# Altium schematic symbol library SCHLib_Hidde.SchLib: 194 symbols (part 1 of 2)
Pins are listed as number, name and electrical type; pins without a type are passive.

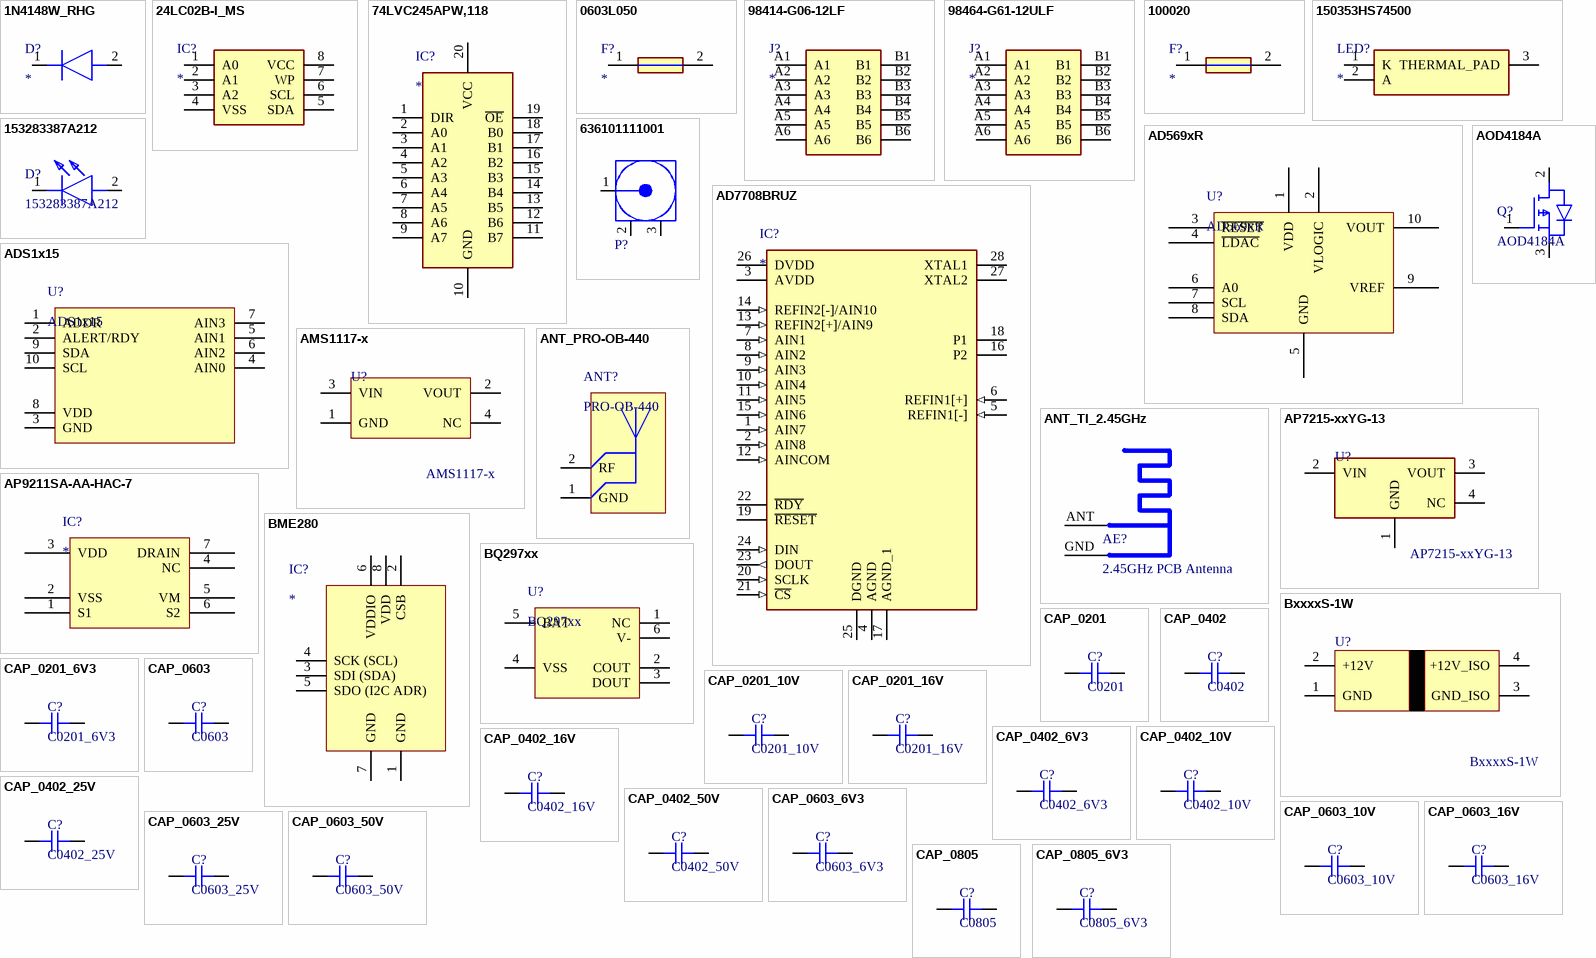
[diagram p0: symbols 1N4148W_RHG to CAP_0805_6V3]

## 1N4148W_RHG
designator D?
Diode; Manufacturer_Name: Taiwan Semiconductor; Manufacturer_Part_Number: 1N4148W RHG; Datasheet Link: https://mouser.componentsearchengine.com/Datasheets/1/1N4148W RHG.pdf; Height: 1.15mm; Mouser Part Number: 821-1N4148WRHG; Mouser Price/Stock: https://www.mouser.co.uk/ProductDetail/Taiwan-Semiconductor/1N4148W-RHG?qs=KwaGCOX4wIag2YPLXylAvA%3D%3D; Arrow Part Number: 1N4148W RHG; Arrow Price/Stock: https://www.arrow.com/en/products/1n4148wrhg/taiwan-semiconductor?region=nac
footprint 1N4148WRHG
pins: 1 K, 2 A

## 24LC02B-I_MS
designator IC?
Integrated Circuit; Manufacturer_Name: Microchip; Manufacturer_Part_Number: 24LC02B-I/MS; Datasheet Link: https://datasheet.datasheetarchive.com/originals/distributors/Datasheets-33/DSA-643049.pdf; Height: 1.1mm; Mouser Part Number: 579-24LC02B-I/MS; Mouser Price/Stock: https://www.mouser.co.uk/ProductDetail/Microchip-Technology/24LC02B-I-MS?qs=qUiwOUCta0fuw30lCQk4NQ%3D%3D; Arrow Part Number: 24LC02B-I/MS; Arrow Price/Stock: https://www.arrow.com/en/products/24lc02b-ims/microchip-technology?region=europe
footprint SOP65P490X110-8N
pins: 1 A0, 2 A1, 3 A2, 4 VSS, 5 SDA, 6 SCL, 7 WP, 8 VCC

## 74LVC245APW,118
designator IC?
Integrated Circuit; Manufacturer_Name: Nexperia; Manufacturer_Part_Number: 74LVC245APW,118; Datasheet Link: https://assets.nexperia.com/documents/data-sheet/74LVC_LVCH245A.pdf; Height: 1.1mm; Mouser Part Number: 771-74LVC245APW-T; Mouser Price/Stock: https://www.mouser.co.uk/ProductDetail/Nexperia/74LVC245APW118?qs=me8TqzrmIYXyG0GfZ8c8kg%3D%3D; Arrow Part Number: 74LVC245APW,118; Arrow Price/Stock: https://www.arrow.com/en/products/74lvc245apw118/nexperia?region=europe
footprint TSSOP-20
pins: 1 DIR, 2 A0, 3 A1, 4 A2, 5 A3, 6 A4, 7 A5, 8 A6, 9 A7, 10 GND, 11 B7, 12 B6, 13 B5, 14 B4, 15 B3, 16 B2, 17 B1, 18 B0, 19 ~{OE}, 20 VCC

## 0603L050
designator F?
Fuse; Manufacturer_Name: LITTELFUSE; Manufacturer_Part_Number: 0603L050; Datasheet Link: https://m.littelfuse.com/~/media/electronics/datasheets/resettable_ptcs/littelfuse_ptc_0603l_datasheet.pdf.pdf; Height: 1.55mm
footprint FUSC1608X155N
pins: 1, 2

## 98414-G06-12LF
designator J?
Connector; Manufacturer_Name: Amphenol; Manufacturer_Part_Number: 98414-G06-12LF; Datasheet Link: http://uk.rs-online.com/web/p/products/1708814; Height: 6.2mm; Mouser Part Number: 649-98414-G06-12LF; Mouser Price/Stock: https://www.mouser.co.uk/ProductDetail/Amphenol-FCI/98414-G06-12LF?qs=V0y2QjpmBGQuUOFb%252Bb1eGw%3D%3D; Arrow Part Number: 98414-G06-12LF; Arrow Price/Stock: https://www.arrow.com/en/products/98414-g06-12lf/amphenol-fci
footprint 98414G0612LF
pins: A1, A2, A3, A4, A5, A6, B1, B2, B3, B4, B5, B6

## 98464-G61-12ULF
designator J?
Connector; Manufacturer_Name: Amphenol; Manufacturer_Part_Number: 98464-G61-12ULF; Datasheet Link: https://cdn.amphenol-icc.com/media/wysiwyg/files/drawing/98464.pdf; Height: 6.4mm; Mouser Part Number: 649-98464-G61-12ULF; Mouser Price/Stock: https://www.mouser.com/Search/Refine.aspx?Keyword=649-98464-G61-12ULF; Arrow Part Number: 98464-G61-12ULF; Arrow Price/Stock: https://www.arrow.com/en/products/98464-g61-12ulf/amphenol-fci
footprint 98464G6112ULF
pins: A1, A2, A3, A4, A5, A6, B1, B2, B3, B4, B5, B6

## 100020
designator F?
Fuse; Manufacturer_Name: LITTELFUSE; Manufacturer_Part_Number: 100020; Datasheet Link: https://www.littelfuse.com/media?resourcetype=datasheets&itemid=c107c31a-e5b2-490e-8d5e-c1474bb95cb0&filename=littelfuse-fuse-clip-100-445-030-520-datasheet-update; Height: 10.6mm
footprint 100020
pins: 1, 2

## 150353HS74500
designator LED?
LED; Manufacturer_Name: Wurth Elektronik; Manufacturer_Part_Number: 150353HS74500; Datasheet Link: https://katalog.we-online.de/led/datasheet/150353HS74500.pdf; Mouser Part Number: 710-150353HS74500; Mouser Price/Stock: https://www.mouser.co.uk/ProductDetail/Wurth-Elektronik/150353HS74500?qs=8Aam6%252B7C6HGwOaUlGteSwA%3D%3D
footprint 150353DS74500
pins: 1 K, 2 A, 3 THERMAL_PAD

## 153283387A212
designator D?
2835 Package
footprint 153283387A212 (2835 UV LED)
pins: 1 K, 2 A

## 636101111001
designator P?  (value not drawn)
WR-UMRF PCB Receptacle SMT with 3 Pads, DC~6GHz, 50Ω; Manufacturer: Wurth Elektronik; ComponentLink1Description: Website Link; ComponentLink1URL: https://www.we-online.com/redexpert/article/636101111001?ad; ComponentLink2Description: Datasheet Link; ComponentLink2URL: https://www.we-online.com/redexpert/spec/636101111001?ad; Manufacturer Part Number: 636101111001; Category: Coaxial Connectors; Match Code: WR-UMRF; Mount: Surface Mount; Operating Temperature Max: 90°C; Operating Temperature Min: -40°C; Packaging: Tape and Reel; Frequency Range: DC~6GHz; Impedance: 50Ω
footprint 63610111x001 (RF CONNECTOR VERTICAL 1.25MM)
pins: 1 Signal "Signal Pin", 2 GND, 3 GND

## AD569xR
designator U?
12/14/16 Bit DAC With internal 2.5V Reference (2ppm/C)
footprint VSSOP-10
pins: 1 VDD, 2 VLOGIC, 3 ~{RESET}, 4 ~{LDAC}, 5 GND, 6 A0, 7 SCL, 8 SDA, 9 VREF, 10 VOUT

## AD7708BRUZ
designator IC?
Integrated Circuit; Manufacturer_Name: Analog Devices; Manufacturer_Part_Number: AD7708BRUZ; Datasheet Link: https://datasheet.datasheetarchive.com/originals/distributors/Datasheets-1/DSA-2093.pdf; Height: 1.2mm; Mouser Part Number: 584-AD7708BRUZ; Mouser Price/Stock: https://www.mouser.co.uk/ProductDetail/Analog-Devices/AD7708BRUZ?qs=%2FtpEQrCGXCzEk0W5qTRGMQ%3D%3D; Arrow Part Number: AD7708BRUZ; Arrow Price/Stock: https://www.arrow.com/en/products/ad7708bruz/analog-devices?region=nac
footprint SOP65P640X120-28N
pins: 1 AIN7 (in), 2 AIN8 (in), 3 AVDD (power), 4 AGND (power), 5 REFIN1[-] (in), 6 REFIN1[+] (in), 7 AIN1 (in), 8 AIN2 (in), 9 AIN3 (in), 10 AIN4 (in), 11 AIN5 (in), 12 AINCOM (in), 13 REFIN2[+]/AIN9 (in), 14 REFIN2[-]/AIN10 (in), 15 AIN6 (in), 16 P2, 17 AGND_1 (power), 18 P1, 19 ~{RESET}, 20 SCLK (in), 21 ~{CS} (in), 22 ~{RDY}, 23 DOUT (out), 24 DIN (in), 25 DGND (power), 26 DVDD (power), 27 XTAL2, 28 XTAL1

## ADS1x15
designator U?
12/16 Bit ADC (11/15 Bit Single Ended)
footprint VSSOP-10
pins: 1 ADDR, 2 ALERT/RDY, 3 GND, 4 AIN0, 5 AIN1, 6 AIN2, 7 AIN3, 8 VDD, 9 SDA, 10 SCL

## AMS1117-x
designator U?
Linear Regulator; Manufacturer_Name: Advanced; Manufacturer_Part_Number: AMS1117-3.3; Datasheet Link: https://datasheet.datasheetarchive.com/originals/distributors/Datasheets-28/DSA-550594.pdf; Height: 1.8mm
footprint SOT89-3; pin to pad 4>none
footprint SOT-223
pins: 1 GND, 2 VOUT, 3 VIN, 4 NC

## ANT_PRO-OB-440
designator ANT?, comment PRO-OB-440
2.4GHz SMD Antenna
footprint PRO-OB-440
pins: 1 GND, 2 RF

## ANT_TI_2.45GHz
designator AE?, comment 2.45GHz PCB Antenna  (no BOM)
footprint ANT_2.45GHZ_TI
pins: ANT, GND

## AOD4184A
designator Q?
40V 7mΩ@10V,20A 2.6V @ 250uA N Channel TO-252-2(DPAK) MOSFETs ROHS
footprint TO-252-2 (DPAK)
pins: 1 G, 2 D, 3 S

## AP7215-xxYG-13
designator U?
LDO Regulator
footprint SOT89-3
pins: 1 GND, 2 VIN, 3 VOUT, 4 NC

## AP9211SA-AA-HAC-7
designator IC?
Integrated Circuit; Manufacturer_Name: Diodes Inc.; Manufacturer_Part_Number: AP9211SA-AA-HAC-7; Datasheet Link: https://www.diodes.com/assets/Datasheets/AP9211.pdf; Height: 0.6mm; Mouser Part Number: 621-AP9211SA-AA-HAC7; Mouser Price/Stock: https://www.mouser.co.uk/ProductDetail/Diodes-Incorporated/AP9211SA-AA-HAC-7?qs=IL6XaBr%252B7X%252B5h7Dir%2FxYKA%3D%3D; Arrow Part Number: AP9211SA-AA-HAC-7; Arrow Price/Stock: https://www.arrow.com/en/products/ap9211sa-aa-hac-7/diodes-incorporated?region=nac
footprint AP9211SAAAHAC7
pins: 1 S1, 2 VSS, 3 VDD, 4 NC, 5 VM, 6 S2, 7 DRAIN

## BME280
designator IC?
Bosch BME280 Temperature & Humidity Sensor; Manufacturer_Name: Olimex Ltd.; Manufacturer_Part_Number: MOD-BME280; Datasheet Link: https://eu.mouser.com/datasheet/2/306/BME280-1620794.pdf; Height: 1mm; Mouser Part Number: 909-MOD-BME280; Mouser Price/Stock: https://www.mouser.co.uk/ProductDetail/Olimex-Ltd/MOD-BME280?qs=%252B6g0mu59x7K82sEO3yPPgg%3D%3D
footprint MODBME280
pins: 1 GND, 2 CSB, 3 SDI (SDA), 4 SCK (SCL), 5 SDO (I2C ADR), 6 VDDIO, 7 GND, 8 VDD

## BQ297xx
designator U?
Single Cell Battery Protection IC; Manufacturer_Name: Texas Instruments; Manufacturer_Part_Number: BQ29700DSER; Datasheet Link: http://www.ti.com/lit/ds/symlink/bq2971.pdf; Height: 0.8mm; Mouser Part Number: 595-BQ29700DSER; Mouser Price/Stock: https://www.mouser.co.uk/ProductDetail/Texas-Instruments/BQ29700DSER?qs=%2Fd%252BFzHvH4c3zNh7Hkm%2Fvbw%3D%3D; Arrow Part Number: BQ29700DSER; Arrow Price/Stock: https://www.arrow.com/en/products/bq29700dser/texas-instruments?region=nac
footprint SON50P150X150X80-6N
pins: 1 NC, 2 COUT, 3 DOUT, 4 VSS, 5 BAT, 6 V-

## BxxxxS-1W
designator U?
DC/DC Isolated Power Supply; Manufacturer_Name: Mornsun; Manufacturer_Part_Number: B0505S-1W; Height: 10.41mm
footprint SIP4
pins: 1 GND, 2 +12V, 3 GND_ISO, 4 +12V_ISO

## CAP_0201
designator C?, comment C0201
Capacitor SMD 0201
footprint CAP_0201
pins: 1, 2

## CAP_0201_6V3
designator C?, comment C0201_6V3
Capacitor SMD 0201 6V3
footprint CAP_0201
pins: 1, 2

## CAP_0201_10V
designator C?, comment C0201_10V
Capacitor SMD 0201 10V
footprint CAP_0201
pins: 1, 2

## CAP_0201_16V
designator C?, comment C0201_16V
Capacitor SMD 0201 16V
footprint CAP_0201
pins: 1, 2

## CAP_0402
designator C?, comment C0402
Capacitor SMD 0402
footprint CAP_0402
pins: 1, 2

## CAP_0402_6V3
designator C?, comment C0402_6V3
Capacitor SMD 0402 6V3
footprint CAP_0402
pins: 1, 2

## CAP_0402_10V
designator C?, comment C0402_10V
Capacitor SMD 0402 10V
footprint CAP_0402
pins: 1, 2

## CAP_0402_16V
designator C?, comment C0402_16V
Capacitor SMD 0402 16V
footprint CAP_0402
pins: 1, 2

## CAP_0402_25V
designator C?, comment C0402_25V
Capacitor SMD 0402 25V
footprint CAP_0402
pins: 1, 2

## CAP_0402_50V
designator C?, comment C0402_50V
Capacitor SMD 0402 50V
footprint CAP_0402
pins: 1, 2

## CAP_0603
designator C?, comment C0603
Capacitor SMD 0603
footprint CAP_0603
pins: 1, 2

## CAP_0603_6V3
designator C?, comment C0603_6V3
Capacitor SMD 0603 6V3
footprint CAP_0603
pins: 1, 2

## CAP_0603_10V
designator C?, comment C0603_10V
Capacitor SMD 0603 10V
footprint CAP_0603
pins: 1, 2

## CAP_0603_16V
designator C?, comment C0603_16V
Capacitor SMD 0603 16V
footprint CAP_0603
pins: 1, 2

## CAP_0603_25V
designator C?, comment C0603_25V
Capacitor SMD 0603 25V
footprint CAP_0603
pins: 1, 2

## CAP_0603_50V
designator C?, comment C0603_50V
Capacitor SMD 0603 50V
footprint CAP_0603
pins: 1, 2

## CAP_0805
designator C?, comment C0805
Capacitor SMD 0805
footprint CAP_0805
pins: 1, 2

## CAP_0805_6V3
designator C?, comment C0805_6V3
Capacitor SMD 0805 6V3
footprint CAP_0805
pins: 1, 2

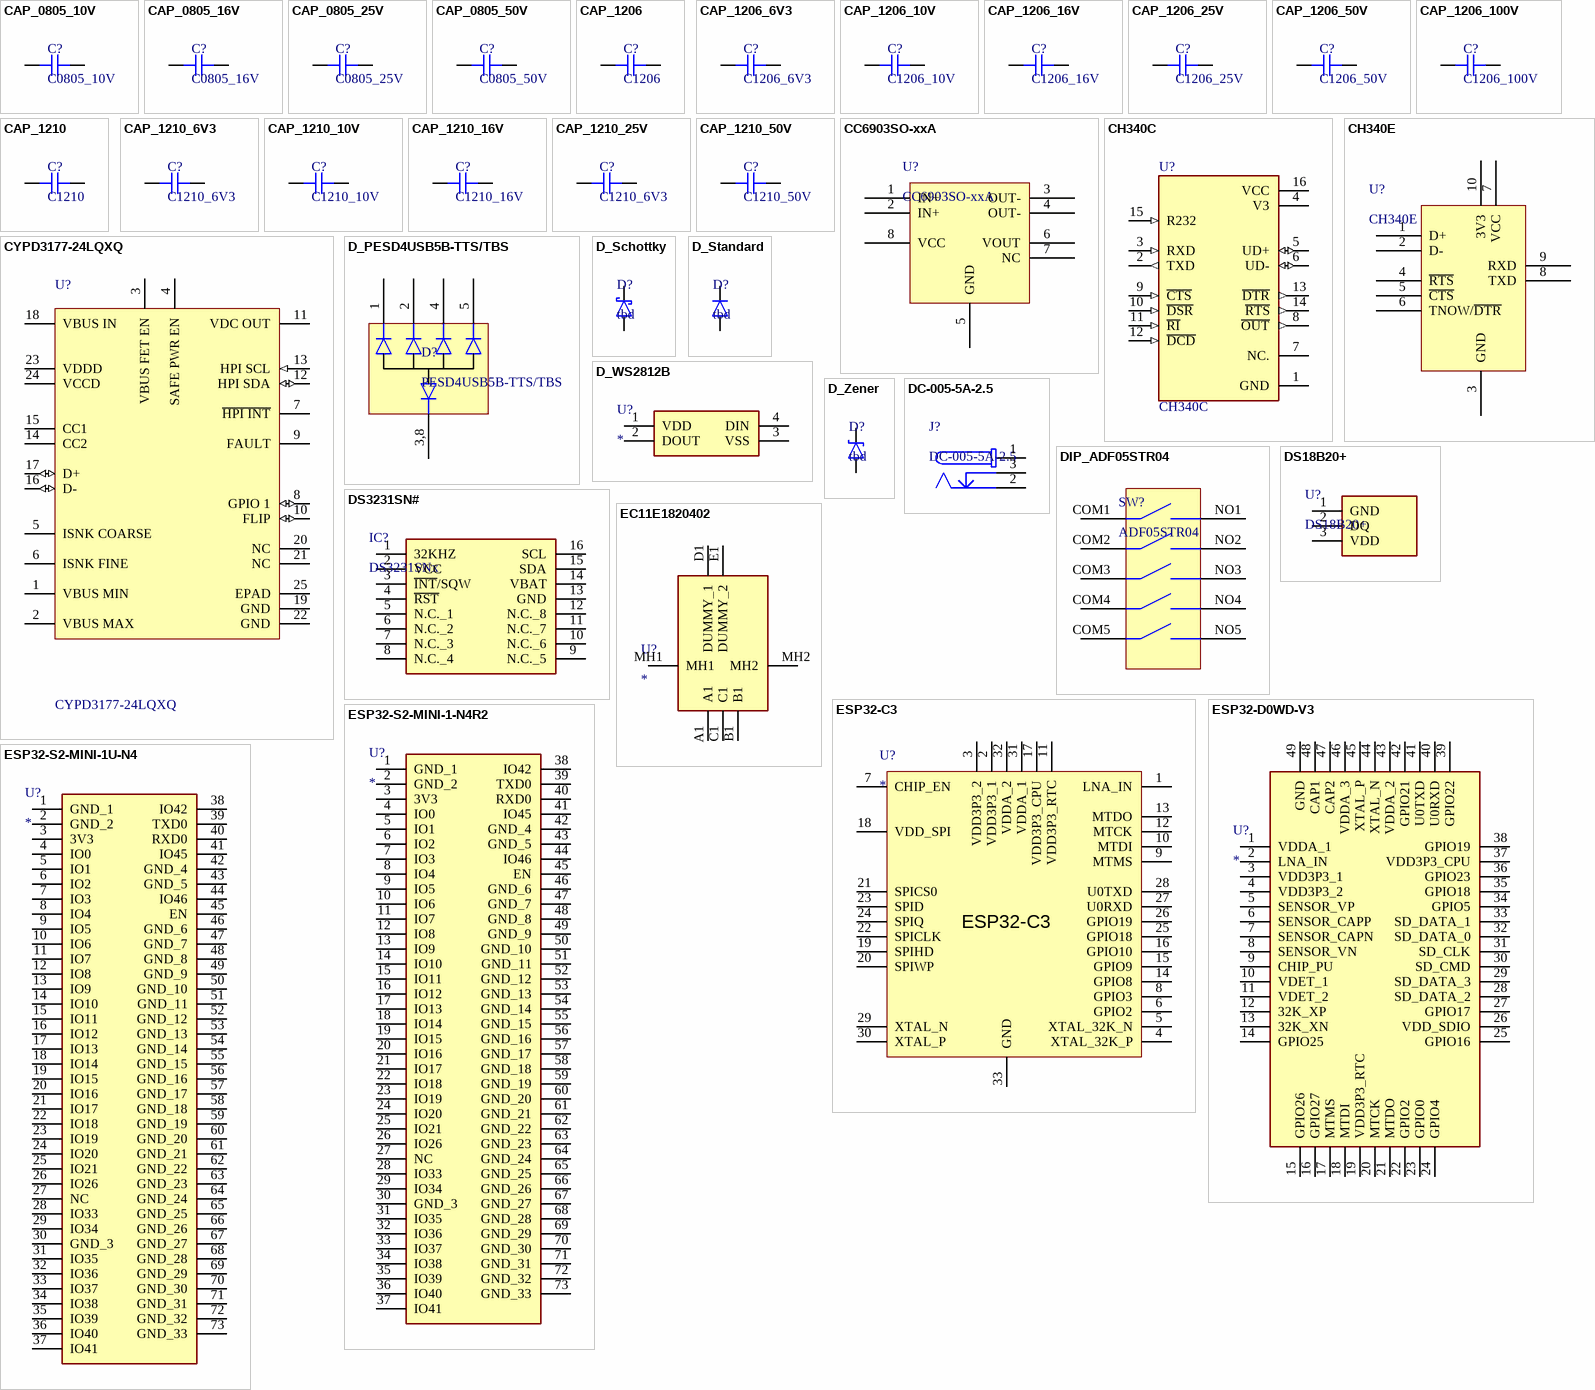
[diagram p1: symbols CAP_0805_10V to ESP32-S2-MINI-1U-N4]

## CAP_0805_10V
designator C?, comment C0805_10V
Capacitor SMD 0805 10V
footprint CAP_0805
pins: 1, 2

## CAP_0805_16V
designator C?, comment C0805_16V
Capacitor SMD 0805 16V
footprint CAP_0805
pins: 1, 2

## CAP_0805_25V
designator C?, comment C0805_25V
Capacitor SMD 0805 25V
footprint CAP_0805
pins: 1, 2

## CAP_0805_50V
designator C?, comment C0805_50V
Capacitor SMD 0805 50V
footprint CAP_0805
pins: 1, 2

## CAP_1206
designator C?, comment C1206
Capacitor SMD 1206
footprint CAP_1206
pins: 1, 2

## CAP_1206_6V3
designator C?, comment C1206_6V3
Capacitor SMD 1206 6V3
footprint CAP_1206
pins: 1, 2

## CAP_1206_10V
designator C?, comment C1206_10V
Capacitor SMD 1206 10V
footprint CAP_1206
pins: 1, 2

## CAP_1206_16V
designator C?, comment C1206_16V
Capacitor SMD 1206 16V
footprint CAP_1206
pins: 1, 2

## CAP_1206_25V
designator C?, comment C1206_25V
Capacitor SMD 1206 25V
footprint CAP_1206
pins: 1, 2

## CAP_1206_50V
designator C?, comment C1206_50V
Capacitor SMD 1206 50V
footprint CAP_1206
pins: 1, 2

## CAP_1206_100V
designator C?, comment C1206_100V
Capacitor SMD 1206 100V
footprint CAP_1206
pins: 1, 2

## CAP_1210
designator C?, comment C1210
Capacitor SMD 1210
footprint CAP_1210
pins: 1, 2

## CAP_1210_6V3
designator C?, comment C1210_6V3
Capacitor SMD 1210 6V3
footprint CAP_1210
pins: 1, 2

## CAP_1210_10V
designator C?, comment C1210_10V
Capacitor SMD 1210 10V
footprint CAP_1210
pins: 1, 2

## CAP_1210_16V
designator C?, comment C1210_16V
Capacitor SMD 1210 16V
footprint CAP_1210
pins: 1, 2

## CAP_1210_25V
designator C?, comment C1210_6V3
Capacitor SMD 1210 25V
footprint CAP_1210
pins: 1, 2

## CAP_1210_50V
designator C?, comment C1210_50V
Capacitor SMD 1210 50V
footprint CAP_1210
pins: 1, 2

## CC6903SO-xxA
designator U?
Hall Effect Bi-directional Current Sensor (10/20/30A)
footprint SOIC-8N
pins: 1 IN+, 2 IN+, 3 OUT-, 4 OUT-, 5 GND, 6 VOUT, 7 NC, 8 VCC

## CH340C
designator U?
USB to serial chip CH340; MF: WCH; Package: None; Availability: Not in stock; SnapEDA_Link: https://www.snapeda.com/parts/CH340C/WCH/view-part/?ref=snap; MP: CH340C; Check_prices: https://www.snapeda.com/parts/CH340C/WCH/view-part/?ref=eda; Value: *; Price: None
footprint SOIC-16N
pins: 1 GND (power), 2 TXD (out), 3 RXD (in), 4 V3 (power), 5 UD+ (io), 6 UD- (io), 7 NC., 8 ~{OUT} (out), 9 ~{CTS} (in), 10 ~{DSR} (in), 11 ~{RI} (in), 12 ~{DCD} (in), 13 ~{DTR} (out), 14 ~{RTS} (out), 15 R232 (in), 16 VCC (power)

## CH340E
designator U?
USB To UART/RS232 IC
footprint VSSOP-10
pins: 1 D+, 2 D-, 3 GND, 4 ~{RTS}, 5 ~{CTS}, 6 TNOW/~{DTR}, 7 VCC, 8 TXD, 9 RXD, 10 3V3

## CYPD3177-24LQXQ
designator U?
IC USB TYPE-C PORT CONTROL 24QFN; Manufacturer: Cypress; Manufacturer Part Number: CYPD3177-24LQXQ
footprint QFN24_IPC_C
pins: 1 VBUS MIN, 2 VBUS MAX, 3 VBUS FET EN, 4 SAFE PWR EN, 5 ISNK COARSE, 6 ISNK FINE, 7 ~{HPI INT}, 8 GPIO 1 (io), 9 FAULT (oc), 10 FLIP (io), 11 VDC OUT, 12 HPI SDA (io), 13 HPI SCL (in), 14 CC2, 15 CC1, 16 D- (io), 17 D+ (io), 18 VBUS IN (power), 19 GND (power), 20 NC, 21 NC, 22 GND (power), 23 VDDD (power), 24 VCCD (power), 25 EPAD (power)

## D_PESD4USB5B-TTS/TBS
designator D?, comment PESD4USB5B-TTS/TBS
5V ESD Protection Diode Array
footprint DFN2510D-10 (10 Pin DFN); pin to pad 1>1+10 2>2+9 4>4+7 5>5+6
pins: 1, 2, 3,8, 4, 5

## D_Schottky
designator D?, comment tbd
SMD Schottky Diode
footprint SOD-123
footprint SOD-123FL
footprint SOD-523
footprint DO-214AC (SMA)
footprint DO-214AA (SMB)
footprint DO-214AB (SMC)
pins: A, K

## D_Standard
designator D?, comment tbd
SMD Standard/Rectifier Diode
footprint SOD-123
footprint SOD-123FL
footprint SOD-523
footprint DO-214AC (SMA)
footprint DO-214AA (SMB)
footprint DO-214AB (SMC)
pins: A, K

## D_WS2812B
designator U?
Neopixel LED; Manufacturer_Name: SparkFun; Manufacturer_Part_Number: COM-16346; Datasheet Link: http://cdn.sparkfun.com/datasheets/BreakoutBoards/WS2812B.pdf; Height: 2.25mm; Mouser Part Number: 474-COM-16346; Mouser Price/Stock: https://www.mouser.co.uk/ProductDetail/SparkFun/COM-16346?qs=OlC7AqGiEDnspdV1Dchx7w%3D%3D; Arrow Part Number: COM-16346; Arrow Price/Stock: https://www.arrow.com/en/products/com-16346/sparkfun-electronics?region=nac
footprint COM16346
pins: 1 VDD, 2 DOUT, 3 VSS, 4 DIN

## D_Zener
designator D?, comment tbd
SMD Zener Diode
footprint SOD-123
footprint SOD-123FL
footprint SOD-523
footprint DO-214AC (SMA)
footprint DO-214AA (SMB)
footprint DO-214AB (SMC)
pins: A, K

## DC-005-5A-2.5
designator J?
DC Barrel Jack (2.5x5.5 5A Rated) by XKB Connectivity
footprint DC-005-5A-2.5 (DC Barrel Jack Receptacle (2.5x5.5))
pins: 1, 2, 3

## DIP_ADF05STR04
designator SW?, comment ADF05STR04
5-Pole SPST DIP switch
footprint ADF05STR04 (TE MFN: 6-1825059-4)
pins: COM1, COM2, COM3, COM4, COM5, NO1, NO2, NO3, NO4, NO5

## DS18B20+
designator U?
Digital Temperature IC (-55°C to +125°C); Manufacturer_Name: Maxim Integrated; Datasheet Link: https://ms.componentsearchengine.com/Datasheets/2/DS18B20+.pdf; Height: 4.95mm; Manufacturer_Part_Number: DS18B20+; Mouser Part Number: 700-DS18B20+; Mouser Price/Stock: https://www.mouser.co.uk/ProductDetail/Maxim-Integrated/DS18B20%2b?qs=7H2Jq%252ByxpJKegCKabDbglA%3D%3D; Arrow Part Number: DS18B20+; Arrow Price/Stock: https://www.arrow.com/en/products/ds18b20/maxim-integrated?region=nac
footprint DS18B20
pins: 1 GND, 2 DQ, 3 VDD

## DS3231SN#
designator IC?, comment DS3231SNx
RTC IC; Manufacturer_Name: Maxim Integrated; Manufacturer_Part_Number: DS3231SN#; Datasheet Link: https://datasheets.maximintegrated.com/en/ds/DS3231.pdf; Height: 2.65mm; Mouser Part Number: 700-DS3231SN#; Mouser Price/Stock: https://www.mouser.co.uk/ProductDetail/Maxim-Integrated/DS3231SN?qs=1eQvB6Dk1vhUlr8%2FOrV0Fw%3D%3D; Arrow Part Number: DS3231SN#; Arrow Price/Stock: https://www.arrow.com/en/products/ds3231sn/maxim-integrated?region=nac
footprint SOIC127P1032X265-16N
pins: 1 32KHZ, 2 VCC, 3 ~{INT}/SQW, 4 ~{RST}, 5 N.C._1, 6 N.C._2, 7 N.C._3, 8 N.C._4, 9 N.C._5, 10 N.C._6, 11 N.C._7, 12 N.C._8, 13 GND, 14 VBAT, 15 SDA, 16 SCL

## EC11E1820402
designator U?
Rotary Encoder; Manufacturer_Name: ALPS Electric; Manufacturer_Part_Number: EC11E1820402; Datasheet Link: https://componentsearchengine.com/Datasheets/2/EC11E18244AU.pdf; Height: 24.5mm; Mouser Part Number: 688-EC11E1820402; Mouser Price/Stock: https://www.mouser.co.uk/ProductDetail/Alps-Alpine/EC11E1820402?qs=oKW7zmyQiO5ZldP%2FZ%252B7dOg%3D%3D
footprint EC11E18244AU
pins: A1, B1, C1, D1 DUMMY_1, E1 DUMMY_2, MH1, MH2

## ESP32-C3
designator U?
32-Bit Microcontroller by Espressif (QFN 5x5) / Ultra-Low-Power SoC with RISC-V Single-Core CPU; Manufacturer_Name: Espressif Systems; Manufacturer_Part_Number: ESP32-C3; Datasheet Link: https://www.espressif.com/sites/default/files/documentation/esp32-c3_datasheet_en.pdf; Height: 0.9mm; Mouser Part Number: 356-ESP32-C3; Mouser Price/Stock: https://www.mouser.co.uk/ProductDetail/Espressif-Systems/ESP32-C3?qs=iLbezkQI%252BsiMXe7tMG%252Bo%2FA%3D%3D
footprint QFN50P500X500X90-33N-D
pins: 1 LNA_IN, 2 VDD3P3_1, 3 VDD3P3_2, 4 XTAL_32K_P, 5 XTAL_32K_N, 6 GPIO2, 7 CHIP_EN, 8 GPIO3, 9 MTMS, 10 MTDI, 11 VDD3P3_RTC, 12 MTCK, 13 MTDO, 14 GPIO8, 15 GPIO9, 16 GPIO10, 17 VDD3P3_CPU, 18 VDD_SPI, 19 SPIHD, 20 SPIWP, 21 SPICS0, 22 SPICLK, 23 SPID, 24 SPIQ, 25 GPIO18, 26 GPIO19, 27 U0RXD, 28 U0TXD, 29 XTAL_N, 30 XTAL_P, 31 VDDA_1, 32 VDDA_2, 33 GND

## ESP32-D0WD-V3
designator U?
32-Bit Microcontroller by Espressif; Manufacturer_Name: Espressif Systems; Manufacturer_Part_Number: ESP32-D0WD-V3; Datasheet Link: https://www.espressif.com/sites/default/files/documentation/esp32_datasheet_en.pdf; Height: 0.9mm; Mouser Part Number: 356-ESP32-D0WD-V3; Mouser Price/Stock: https://www.mouser.co.uk/ProductDetail/Espressif-Systems/ESP32-D0WD-V3?qs=GBLSl2AkirsI7kXw8ZPing%3D%3D
footprint QFN35P500X500X90-49N-D
pins: 1 VDDA_1, 2 LNA_IN, 3 VDD3P3_1, 4 VDD3P3_2, 5 SENSOR_VP, 6 SENSOR_CAPP, 7 SENSOR_CAPN, 8 SENSOR_VN, 9 CHIP_PU, 10 VDET_1, 11 VDET_2, 12 32K_XP, 13 32K_XN, 14 GPIO25, 15 GPIO26, 16 GPIO27, 17 MTMS, 18 MTDI, 19 VDD3P3_RTC, 20 MTCK, 21 MTDO, 22 GPIO2, 23 GPIO0, 24 GPIO4, 25 GPIO16, 26 VDD_SDIO, 27 GPIO17, 28 SD_DATA_2, 29 SD_DATA_3, 30 SD_CMD, 31 SD_CLK, 32 SD_DATA_0, 33 SD_DATA_1, 34 GPIO5, 35 GPIO18, 36 GPIO23, 37 VDD3P3_CPU, 38 GPIO19, 39 GPIO22, 40 U0RXD, 41 U0TXD, 42 GPIO21, 43 VDDA_2, 44 XTAL_N, 45 XTAL_P, 46 VDDA_3, 47 CAP2, 48 CAP1, 49 GND

## ESP32-S2-MINI-1-N4R2
designator U?
32-Bit Microcontroller by Espressif; Manufacturer_Name: Espressif Systems; Manufacturer_Part_Number: ESP32-S2-MINI-1-N4R2; Datasheet Link: https://cz.mouser.com/datasheet/2/891/esp32_s2_mini_1_esp32_s2_mini_1u_datasheet_en-1928084.pdf; Height: 2.55mm; Mouser Part Number: 356-ESP32S2MINI1N4R2; Mouser Price/Stock: https://www.mouser.co.uk/ProductDetail/Espressif-Systems/ESP32-S2-MINI-1-N4R2?qs=iLbezkQI%252Bsgb61FCBnw%252B9A%3D%3D
footprint ESP32S2MINI1N4R2
pins: 1 GND_1, 2 GND_2, 3 3V3, 4 IO0, 5 IO1, 6 IO2, 7 IO3, 8 IO4, 9 IO5, 10 IO6, 11 IO7, 12 IO8, 13 IO9, 14 IO10, 15 IO11, 16 IO12, 17 IO13, 18 IO14, 19 IO15, 20 IO16, 21 IO17, 22 IO18, 23 IO19, 24 IO20, 25 IO21, 26 IO26, 27 NC, 28 IO33, 29 IO34, 30 GND_3, 31 IO35, 32 IO36, 33 IO37, 34 IO38, 35 IO39, 36 IO40, 37 IO41, 38 IO42, 39 TXD0, 40 RXD0, 41 IO45, 42 GND_4, 43 GND_5, 44 IO46, 45 EN, 46 GND_6, 47 GND_7, 48 GND_8, 49 GND_9, 50 GND_10, 51 GND_11, 52 GND_12, 53 GND_13, 54 GND_14, 55 GND_15, 56 GND_16, 57 GND_17, 58 GND_18, 59 GND_19, 60 GND_20, 61 GND_21, 62 GND_22, 63 GND_23, 64 GND_24, 65 GND_25, 66 GND_26, 67 GND_27, 68 GND_28, 69 GND_29, 70 GND_30, 71 GND_31, 72 GND_32, 73 GND_33

## ESP32-S2-MINI-1U-N4
designator U?
32-Bit Microcontroller by Espressif; Manufacturer_Name: Espressif Systems; Manufacturer_Part_Number: ESP32-S2-MINI-1U-N4; Datasheet Link: https://www.espressif.com/sites/default/files/documentation/esp32-s2-mini-1_esp32-s2-mini-1u_datasheet_en.pdf; Height: 2.55mm; Mouser Part Number: 356-ESP32-S2-MINI-1U; Mouser Price/Stock: https://www.mouser.co.uk/ProductDetail/Espressif-Systems/ESP32-S2-MINI-1U-N4?qs=DPoM0jnrROXF%2FnS1m43keg%3D%3D
footprint ESP32S2MINI1UN4
pins: 1 GND_1, 2 GND_2, 3 3V3, 4 IO0, 5 IO1, 6 IO2, 7 IO3, 8 IO4, 9 IO5, 10 IO6, 11 IO7, 12 IO8, 13 IO9, 14 IO10, 15 IO11, 16 IO12, 17 IO13, 18 IO14, 19 IO15, 20 IO16, 21 IO17, 22 IO18, 23 IO19, 24 IO20, 25 IO21, 26 IO26, 27 NC, 28 IO33, 29 IO34, 30 GND_3, 31 IO35, 32 IO36, 33 IO37, 34 IO38, 35 IO39, 36 IO40, 37 IO41, 38 IO42, 39 TXD0, 40 RXD0, 41 IO45, 42 GND_4, 43 GND_5, 44 IO46, 45 EN, 46 GND_6, 47 GND_7, 48 GND_8, 49 GND_9, 50 GND_10, 51 GND_11, 52 GND_12, 53 GND_13, 54 GND_14, 55 GND_15, 56 GND_16, 57 GND_17, 58 GND_18, 59 GND_19, 60 GND_20, 61 GND_21, 62 GND_22, 63 GND_23, 64 GND_24, 65 GND_25, 66 GND_26, 67 GND_27, 68 GND_28, 69 GND_29, 70 GND_30, 71 GND_31, 72 GND_32, 73 GND_33

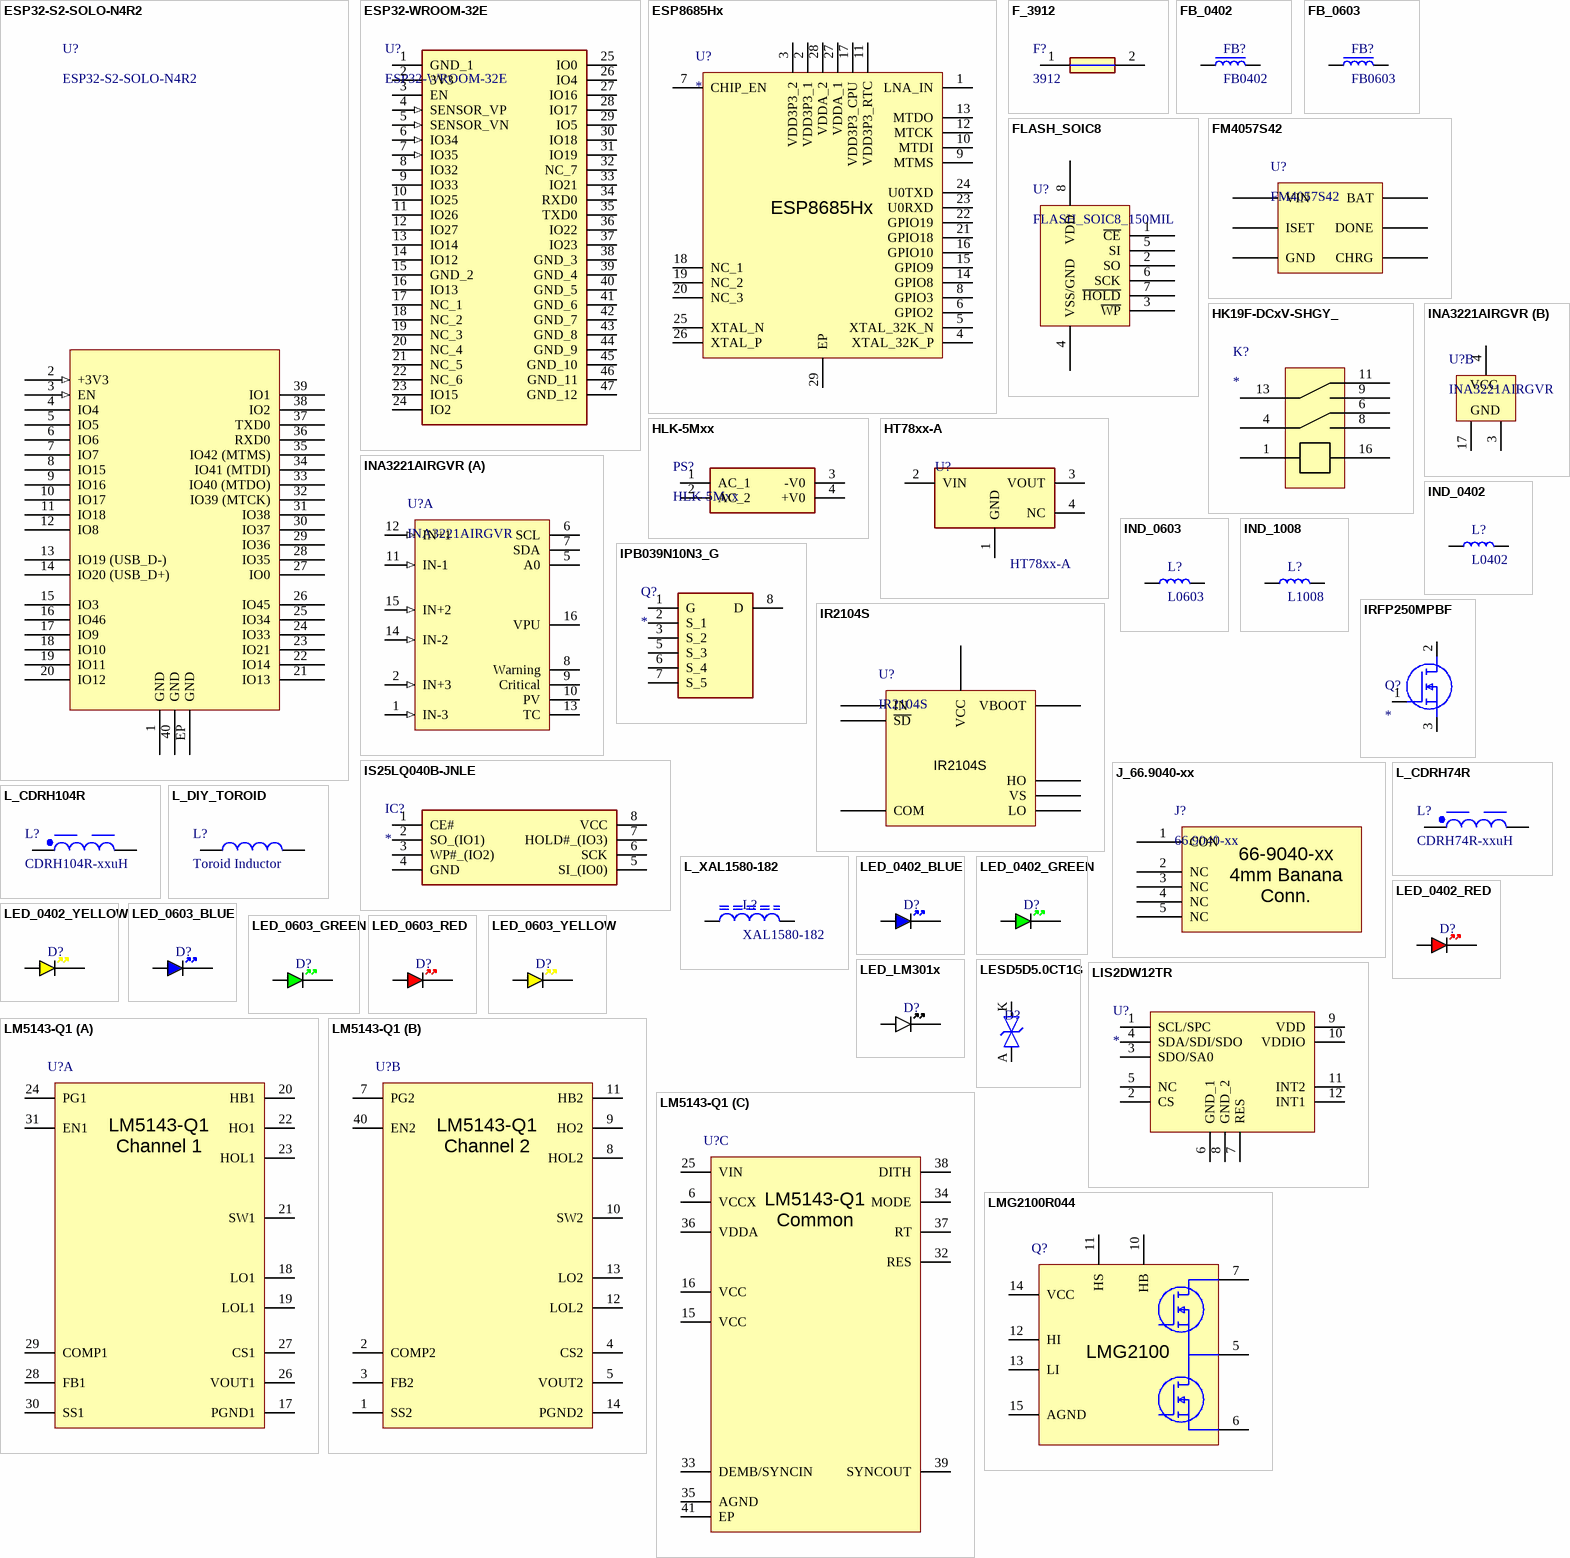
[diagram p2: symbols ESP32-S2-SOLO-N4R2 to LMG2100R044]

## ESP32-S2-SOLO-N4R2
designator U?
32-Bit Microcontroller by Espressif
footprint ESP32-S2-SOLO-N4R2
footprint ESP32-S2-SOLO-N4R2U
pins: 1 GND, 2 +3V3 (in), 3 EN (in), 4 IO4, 5 IO5, 6 IO6, 7 IO7, 8 IO15, 9 IO16, 10 IO17, 11 IO18, 12 IO8, 13 IO19 (USB_D-), 14 IO20 (USB_D+), 15 IO3, 16 IO46, 17 IO9, 18 IO10, 19 IO11, 20 IO12, 21 IO13, 22 IO14, 23 IO21, 24 IO33, 25 IO34, 26 IO45, 27 IO0, 28 IO35, 29 IO36, 30 IO37, 31 IO38, 32 IO39 (MTCK), 33 IO40 (MTDO), 34 IO41 (MTDI), 35 IO42 (MTMS), 36 RXD0, 37 TXD0, 38 IO2, 39 IO1, 40 GND, EP GND

## ESP32-WROOM-32E
designator U?
32-Bit Microcontroller by Espressif; Manufacturer_Name: Espressif Systems; Manufacturer_Part_Number: ESP32-WROOM-32E(M113EH2800PH3Q0); Datasheet Link: https://br.mouser.com/datasheet/2/891/esp32-wroom-32e_esp32-wroom-32ue_datasheet_en-1855879.pdf; Height: 3.35mm; Mouser Part Number: 356-ESP32WRM32E128PH; Mouser Price/Stock: https://www.mouser.co.uk/ProductDetail/Espressif-Systems/ESP32-WROOM-32EM113EH2800PH3Q0?qs=vHuUswq2%252BsxJA4NfkQM4Lw%3D%3D
footprint ESP32WROOM32EM113EH2800PH3Q0 - duplicate
pins: 1 GND_1, 2 3V3, 3 EN, 4 SENSOR_VP (in), 5 SENSOR_VN (in), 6 IO34 (in), 7 IO35 (in), 8 IO32, 9 IO33, 10 IO25, 11 IO26, 12 IO27, 13 IO14, 14 IO12, 15 GND_2, 16 IO13, 17 NC_1, 18 NC_2, 19 NC_3, 20 NC_4, 21 NC_5, 22 NC_6, 23 IO15, 24 IO2, 25 IO0, 26 IO4, 27 IO16, 28 IO17, 29 IO5, 30 IO18, 31 IO19, 32 NC_7, 33 IO21, 34 RXD0, 35 TXD0, 36 IO22, 37 IO23, 38 GND_3, 39 GND_4, 40 GND_5, 41 GND_6, 42 GND_7, 43 GND_8, 44 GND_9, 45 GND_10, 46 GND_11, 47 GND_12

## ESP8685Hx
designator U?
32-Bit Microcontroller by Espressif (QFN 4x4) / Ultra-Low-Power SoC with RISC-V Single-Core CPU
footprint QFN40P400X400X90-29N
pins: 1 LNA_IN, 2 VDD3P3_1, 3 VDD3P3_2, 4 XTAL_32K_P, 5 XTAL_32K_N, 6 GPIO2, 7 CHIP_EN, 8 GPIO3, 9 MTMS, 10 MTDI, 11 VDD3P3_RTC, 12 MTCK, 13 MTDO, 14 GPIO8, 15 GPIO9, 16 GPIO10, 17 VDD3P3_CPU, 18 NC_1, 19 NC_2, 20 NC_3, 21 GPIO18, 22 GPIO19, 23 U0RXD, 24 U0TXD, 25 XTAL_N, 26 XTAL_P, 27 VDDA_1, 28 VDDA_2, 29 EP

## F_3912
designator F?, comment 3912
3912 Size Fuse
footprint FUSC9830X318N
pins: 1, 2

## FB_0402
designator FB?, comment FB0402
Ferrite Bead SMD 0402
footprint FB_0402
pins: 1, 2

## FB_0603
designator FB?, comment FB0603
Ferrite Bead SMD 0603
footprint FB_0603 (Ferrite Bead 0603)
pins: 1, 2

## FLASH_SOIC8
designator U?, comment FLASH_SOIC8_150MIL
Generic NOR Flash in SOIC8 (150mil) package
footprint SOIC-8N
pins: 1 ~{CE}, 2 SO, 3 ~{WP}, 4 VSS/GND, 5 SI, 6 SCK, 7 ~{HOLD}, 8 VDD

## FM4057S42
designator U?
1S Litium-ion charger IC
footprint SOT23-6
footprint Model Name (Footprint not found)
pins: 1 CHRG, 2 GND, 3 BAT, 4 VIN, 5 DONE, 6 ISET

## HK19F-DCxV-SHGY_
designator K?
Generic Relay; Manufacturer_Name: HUIKE; Manufacturer_Part_Number: HK19F-DC5V-SHG(Y); Datasheet Link: https://datasheet.lcsc.com/szlcsc/Ningbo-Keke-New-Era-Appliance-HK19F-DC5V-SHG-Y_C54512.pdf; Height: 12.3mm
footprint HK19FDC5VSHGY
pins: 1 COIL+, 4 COM2, 6 NC2, 8 NO2, 9 NO1, 11 NC1, 13 COM1, 16 COIL-

## HLK-5Mxx
designator PS?
Hi-link AC-DC 5W Isolated Power Supply; Manufacturer_Part_Number: HLK-5M12; Datasheet Link: http://www.hlktech.net/product_detail.php?ProId=64; Height: 18mm; Manufacturer_Name: Hi-Link
footprint HLK5M12
pins: 1 AC_1, 2 AC_2, 3 -V0, 4 +V0

## HT78xx-A
designator U?
LDO Regulator
footprint SOT89-3
pins: 1 GND, 2 VIN, 3 VOUT, 4 NC

## INA3221AIRGVR
designator U?
QFN-16-EP(4x4) Current-Sensing Amplifiers ROHS
footprint VQFN-16
part A pins: 1 IN-3 (in), 2 IN+3 (in), 5 A0 (power), 6 SCL (power), 7 SDA (power), 8 Warning (power), 9 Critical (power), 10 PV (power), 11 IN-1 (in), 12 IN+1 (in), 13 TC (power), 14 IN-2 (in), 15 IN+2 (in), 16 VPU (power)
part B pins: 3 GND (power), 4 VS (power), 17 TH/GND (power)
part B text: VCC

## IND_0402
designator L?, comment L0402
Inductor SMD 0402
footprint IND_0402
pins: 1, 2

## IND_0603
designator L?, comment L0603
Inductor SMD 0603
footprint IND_0603
pins: 1, 2

## IND_1008
designator L?, comment L1008
Inductor SMD 1008
footprint IND_1008
pins: 1, 2

## IPB039N10N3_G
designator Q?
MOSFET (N-Channel); Manufacturer_Name: Infineon; Manufacturer_Part_Number: IPB039N10N3 G; Datasheet Link: https://www.infineon.com/dgdl/Infineon-IPB039N10N3G-DS-v02_03-en.pdf?fileId=db3a30431ce5fb52011d1ed1fd3915e0; Mouser Part Number: 726-IPB039N10N3G; Mouser Price/Stock: https://www.mouser.co.uk/ProductDetail/Infineon-Technologies/IPB039N10N3-G?qs=wK%252BoHS4yu54PtSpV3fMiug%3D%3D
footprint PG-TO263-7-3_3
pins: 1 G, 2 S_1, 3 S_2, 5 S_3, 6 S_4, 7 S_5, 8 D

## IR2104S
designator U?
Half-Bridge Gate Driver with Integrated Deadtime & Shutdown
footprint SOIC-8N
pins: 1 VCC, 2 IN, 3 ~{SD}, 4 COM, 5 LO, 6 VS, 7 HO, 8 VBOOT

## IRFP250MPBF
designator Q?
MOSFET (N-Channel); Manufacturer_Name: Infineon; Manufacturer_Part_Number: IRFP250MPBF; Datasheet Link: https://www.infineon.com/dgdl/Infineon-IRFP250M-DataSheet-v01_01-EN.pdf?fileId=5546d462533600a4015356287bc71fda; Height: 5.3mm; Mouser Part Number: 942-IRFP250MPBF; Mouser Price/Stock: https://www.mouser.co.uk/ProductDetail/Infineon-IR/IRFP250MPBF?qs=9%252BKlkBgLFf0xLsFu1Ew8eg%3D%3D; Arrow Part Number: IRFP250MPBF; Arrow Price/Stock: https://www.arrow.com/en/products/irfp250mpbf/infineon-technologies-ag?region=europe
footprint TO-247_StandardHeight
footprint TO-247_IncreasedHeight
pins: 1 G, 2 D, 3 S

## IS25LQ040B-JNLE
designator IC?
Integrated Circuit; Manufacturer_Name: Integrated Silicon Solution Inc.; Manufacturer_Part_Number: IS25LQ040B-JNLE; Datasheet Link: http://www.issi.com/WW/pdf/25LQ025B-512B-010B-020B-040B.pdf; Height: 1.75mm; Mouser Part Number: 870-25LQ040BJNLE; Mouser Price/Stock: https://www.mouser.co.uk/ProductDetail/ISSI/IS25LQ040B-JNLE?qs=bHq4TaS7gBefHrAkyevAVQ%3D%3D; Arrow Part Number: IS25LQ040B-JNLE; Arrow Price/Stock: https://www.arrow.com/en/products/is25lq040b-jnle/integrated-silicon-solution-inc
footprint SOIC127P600X175-8N
pins: 1 CE#, 2 SO_(IO1), 3 WP#_(IO2), 4 GND, 5 SI_(IO0), 6 SCK, 7 HOLD#_(IO3), 8 VCC

## J_66.9040-xx
designator J?, comment 66.9040-xx
Right Angle 24A 1kV Banana Test Connector
footprint 66.9040-xx (Right Angle Banana Test Connector)
pins: 1 CON, 2 NC, 3 NC, 4 NC, 5 NC
text: 66-9040-xx / 4mm Banana Conn.

## L_CDRH74R
designator L?, comment CDRH74R-xxuH
SMD Inductor
footprint CDRH74R (Generic Inductor Package (7x7x4mm))
pins: 1, 2

## L_CDRH104R
designator L?, comment CDRH104R-xxuH
SMD Inductor
footprint CDRH104R
pins: 1, 2

## L_DIY_TOROID
designator L?, comment Toroid Inductor
footprint Toroid_Inductor
pins: 1, 2

## L_XAL1580-182
designator L?, comment XAL1580-182
No description
footprint XAL1580
pins: 1, 2

## LED_0402_BLUE
designator D?, comment BLUE  (value not drawn)
LED 0402 BLUE SMD
footprint LED_0402_BLUE
pins: A, K

## LED_0402_GREEN
designator D?, comment GREEN  (value not drawn)
LED 0402 GREEN SMD
footprint LED_0402_GREEN
pins: A, K

## LED_0402_RED
designator D?, comment RED  (value not drawn)
LED 0402 RED SMD
footprint LED_0402_RED
pins: A, K

## LED_0402_YELLOW
designator D?, comment YELLOW  (value not drawn)
LED 0402 YELLOW SMD
footprint LED_0402_YELLOW
pins: A, K

## LED_0603_BLUE
designator D?, comment BLUE  (value not drawn)
LED 0603 BLUE SMD
footprint LED_0603_BLUE
pins: A, K

## LED_0603_GREEN
designator D?, comment GREEN  (value not drawn)
LED 0603 GREEN SMD
footprint LED_0603_GREEN
pins: A, K

## LED_0603_RED
designator D?, comment RED  (value not drawn)
LED 0603 RED SMD
footprint LED_0603_RED
pins: A, K

## LED_0603_YELLOW
designator D?, comment YELLOW  (value not drawn)
LED 0603 YELLOW SMD
footprint LED_0603_YELLOW
pins: A, K

## LED_LM301x
designator D?, comment LM301H  (value not drawn)
Samsung LM301 LED in 3030 Package
footprint LED_3030 (Samsung 3030 LED for LM301x)
pins: A, K

## LESD5D5.0CT1G
designator D?  (value not drawn)
Unidirectional 5V TVS Diode
footprint SOD-523
pins: A, K

## LIS2DW12TR
designator U?
3-Axis Accelerometer; Manufacturer_Name: STMicroelectronics; Manufacturer_Part_Number: LIS2DW12TR; Datasheet Link: http://www.st.com/content/ccc/resource/technical/document/datasheet/group3/30/3a/4e/6b/68/16/4a/35/DM00323179/files/DM00323179.pdf/jcr:content/translations/en.DM00323179.pdf; Mouser Part Number: 511-LIS2DW12TR; Mouser Price/Stock: https://www.mouser.co.uk/ProductDetail/STMicroelectronics/LIS2DW12TR?qs=u4fy%2FsgLU9NZAt0DqrAehA%3D%3D; Arrow Part Number: LIS2DW12TR; Arrow Price/Stock: https://www.arrow.com/en/products/lis2dw12tr/stmicroelectronics
footprint LGA-12
pins: 1 SCL/SPC, 2 CS, 3 SDO/SA0, 4 SDA/SDI/SDO, 5 NC, 6 GND_1, 7 RES, 8 GND_2, 9 VDD, 10 VDDIO, 11 INT2, 12 INT1

## LM5143-Q1
designator U?
3.5-V to 65-V low Iq, dual, 2-phase synchronous buck DC-DC controller
footprint VQFNP (40) (LM5143 Footprint)
part A pins: 17 PGND1, 18 LO1, 19 LOL1, 20 HB1, 21 SW1, 22 HO1, 23 HOL1, 24 PG1, 26 VOUT1, 27 CS1, 28 FB1, 29 COMP1, 30 SS1, 31 EN1
part B pins: 1 SS2, 2 COMP2, 3 FB2, 4 CS2, 5 VOUT2, 7 PG2, 8 HOL2, 9 HO2, 10 SW2, 11 HB2, 12 LOL2, 13 LO2, 14 PGND2, 40 EN2
part C pins: 6 VCCX, 15 VCC, 16 VCC, 25 VIN, 32 RES, 33 DEMB/SYNCIN, 34 MODE, 35 AGND, 36 VDDA, 37 RT, 38 DITH, 39 SYNCOUT, 41 EP
part A text: LM5143-Q1 / Channel 1
part B text: LM5143-Q1 / Channel 2
part C text: LM5143-Q1 / Common

## LMG2100R044
designator Q?  (value not drawn)
GaNFET Half-bridge with integrated gate driver
footprint RAR0016A-MFG
pins: 5 SW, 6 PGND, 7 VIN, 10 HB, 11 HS, 12 HI, 13 LI, 14 VCC, 15 AGND
text: LMG2100

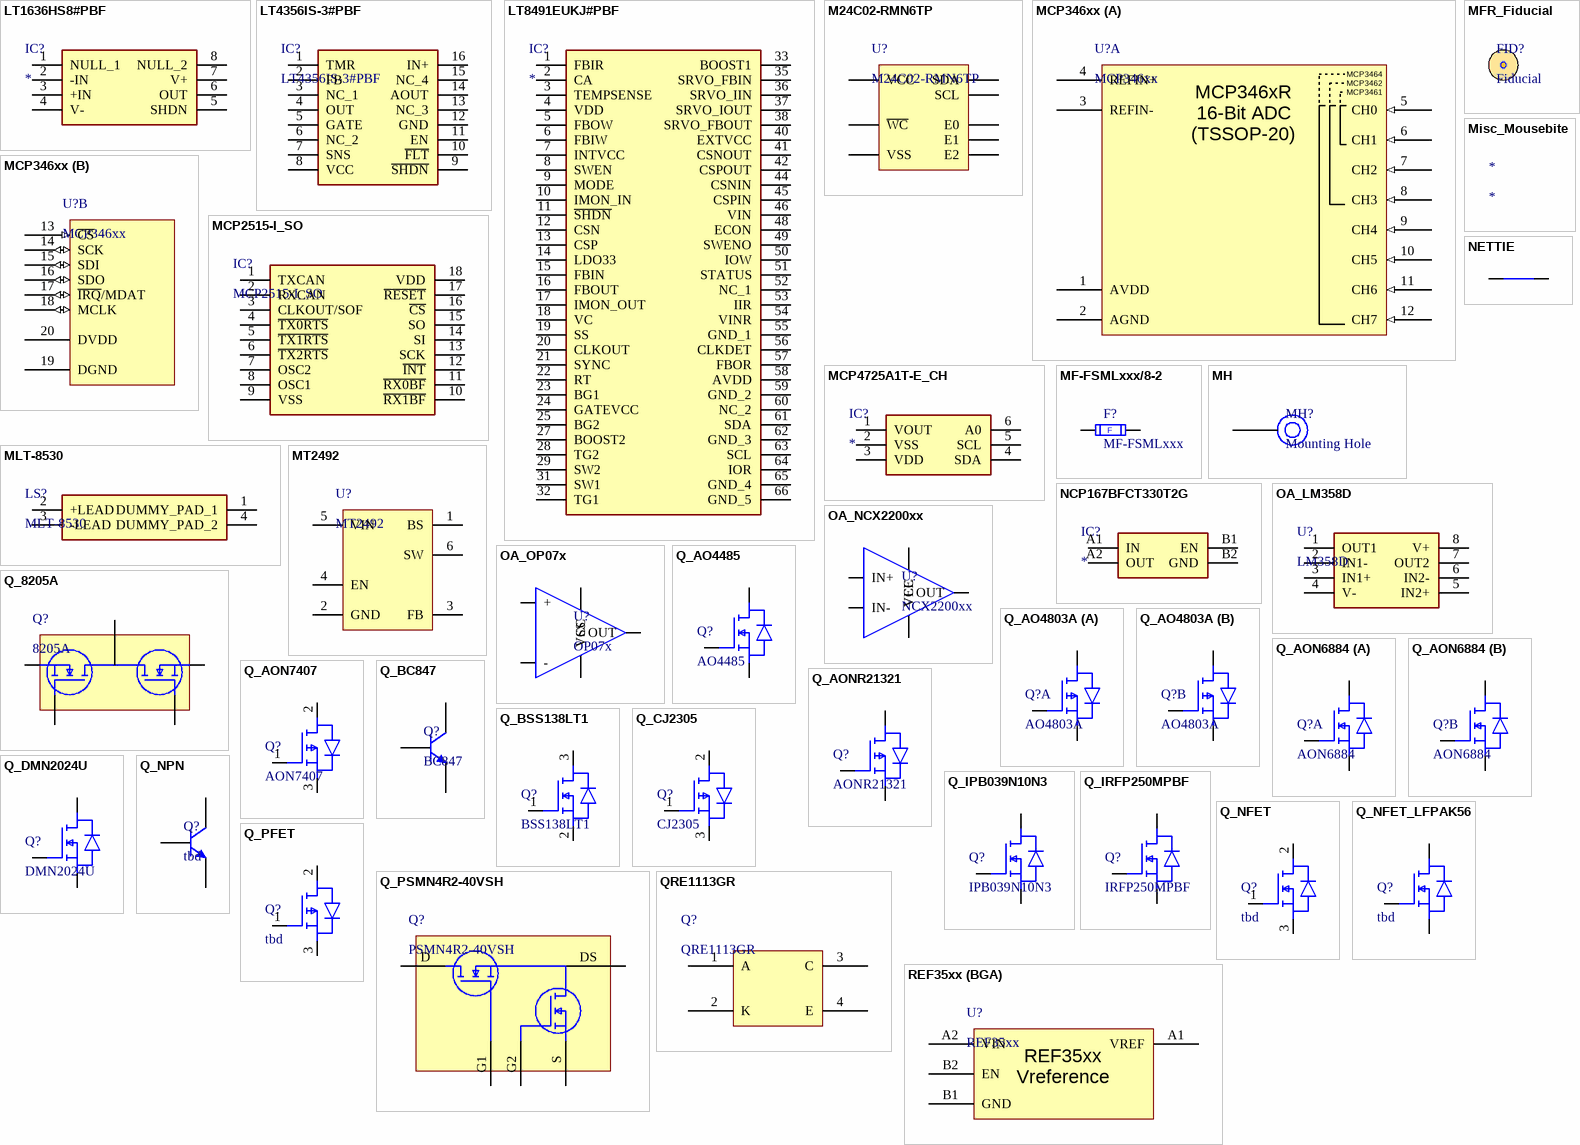
[diagram p3: symbols LT1636HS8#PBF to REF35xx (BGA)]

## LT1636HS8#PBF
designator IC?
Integrated Circuit; Manufacturer_Name: Analog Devices; Manufacturer_Part_Number: LT1636HS8#PBF; Datasheet Link: https://www.analog.com/media/en/technical-documentation/data-sheets/1636fc.pdf; Height: 1.752mm; Mouser Part Number: 584-LT1636HS8#PBF; Mouser Price/Stock: https://www.mouser.co.uk/ProductDetail/Analog-Devices-Linear-Technology/LT1636HS8PBF?qs=ytflclh7QUXhDOA1eHsZQg%3D%3D; Arrow Part Number: LT1636HS8#PBF; Arrow Price/Stock: https://www.arrow.com/en/products/lt1636hs8pbf/analog-devices?region=europe
footprint SOIC-8N
pins: 1 NULL_1, 2 -IN, 3 +IN, 4 V-, 5 SHDN, 6 OUT, 7 V+, 8 NULL_2

## LT4356IS-3#PBF
designator IC?
Surge Stop IC; Manufacturer_Name: Linear Technology; Datasheet Link: https://www.analog.com/media/en/technical-documentation/data-sheets/LT4356-3.pdf; Height: 1.752mm; Manufacturer_Part_Number: LT4356IS-3#PBF; Mouser Part Number: 584-LT4356IS-3#PBF; Mouser Price/Stock: https://www.mouser.com/Search/Refine.aspx?Keyword=584-LT4356IS-3%23PBF
footprint SOIC-16N
pins: 1 TMR, 2 FB, 3 NC_1, 4 OUT, 5 GATE, 6 NC_2, 7 SNS, 8 VCC, 9 ~{SHDN}, 10 ~{FLT}, 11 EN, 12 GND, 13 NC_3, 14 AOUT, 15 NC_4, 16 IN+

## LT8491EUKJ#PBF
designator IC?
Integrated Circuit; Manufacturer_Name: Linear Technology; Manufacturer_Part_Number: LT8491EUKJ#PBF; Datasheet Link: https://www.analog.com/en/products/lt8491.html; Height: 0.8mm; Mouser Part Number: 584-LT8491EUKJ#PBF; Mouser Price/Stock: https://www.mouser.co.uk/ProductDetail/Analog-Devices-Linear-Technology/LT8491EUKJPBF?qs=GBLSl2AkiruXAes16pyDmQ%3D%3D
footprint LT8491
pins: 1 FBIR, 2 CA, 3 TEMPSENSE, 4 VDD, 5 FBOW, 6 FBIW, 7 INTVCC, 8 SWEN, 9 MODE, 10 IMON_IN, 11 ~{SHDN}, 12 CSN, 13 CSP, 14 LDO33, 15 FBIN, 16 FBOUT, 17 IMON_OUT, 18 VC, 19 SS, 20 CLKOUT, 21 SYNC, 22 RT, 23 BG1, 24 GATEVCC, 25 BG2, 27 BOOST2, 28 TG2, 29 SW2, 31 SW1, 32 TG1, 33 BOOST1, 35 SRVO_FBIN, 36 SRVO_IIN, 37 SRVO_IOUT, 38 SRVO_FBOUT, 40 EXTVCC, 41 CSNOUT, 42 CSPOUT, 44 CSNIN, 45 CSPIN, 46 VIN, 48 ECON, 49 SWENO, 50 IOW, 51 STATUS, 52 NC_1, 53 IIR, 54 VINR, 55 GND_1, 56 CLKDET, 57 FBOR, 58 AVDD, 59 GND_2, 60 NC_2, 61 SDA, 62 GND_3, 63 SCL, 64 IOR, 65 GND_4, 66 GND_5

## M24C02-RMN6TP
designator U?
2Kbit I2C EEPROM
footprint SOIC-8N
pins: 1 E0, 2 E1, 3 E2, 4 VSS, 5 SDA, 6 SCL, 7 ~{WC}, 8 VCC

## MCP346xx
designator U?
Two/Four/Eight-Channel, 153.6 ksps, Low Noise, / 16-Bit Delta-Sigma ADC / Subfix R = Integrated 2.4V VREF / - MCP3461: Single Channel Device / - MCP3462: Dual Channel Device / - MCP3464: Quad Channel Device
footprint TSSOP-20
part A pins: 1 AVDD (power), 2 AGND (power), 3 REFIN- (hiz), 4 REFIN+ (hiz), 5 CH0 (in), 6 CH1 (in), 7 CH2 (in), 8 CH3 (in), 9 CH4 (in), 10 CH5 (in), 11 CH6 (in), 12 CH7 (in)
part B pins: 13 ~{CS} (in), 14 SCK (io), 15 SDI (io), 16 SDO (io), 17 ~{IRQ}/MDAT (io), 18 MCLK (io), 19 DGND (power), 20 DVDD (power)
part A text: MCP3464; MCP3462; MCP3461; MCP346xR / 16-Bit ADC / (TSSOP-20)

## MCP2515-I_SO
designator IC?
CAN Controller IC; Manufacturer_Name: Microchip; Manufacturer_Part_Number: MCP2515-I/SO; Datasheet Link: https://datasheet.datasheetarchive.com/originals/distributors/Datasheets-34/DSA-675138.pdf; Height: 2.65mm; Mouser Part Number: 579-MCP2515-I/SO; Mouser Price/Stock: https://www.mouser.co.uk/ProductDetail/Microchip-Technology/MCP2515-I-SO?qs=KwArPi4cUogGDbGnphOvtQ%3D%3D; Arrow Part Number: MCP2515-I/SO; Arrow Price/Stock: https://www.arrow.com/en/products/mcp2515-iso/microchip-technology?region=nac
footprint SOIC127P1030X265-18N
pins: 1 TXCAN, 2 RXCAN, 3 CLKOUT/SOF, 4 ~{TX0RTS}, 5 ~{TX1RTS}, 6 ~{TX2RTS}, 7 OSC2, 8 OSC1, 9 VSS, 10 ~{RX1BF}, 11 ~{RX0BF}, 12 ~{INT}, 13 SCK, 14 SI, 15 SO, 16 ~{CS}, 17 ~{RESET}, 18 VDD

## MCP4725A1T-E_CH
designator IC?
12 Bit DAC; Manufacturer_Name: Microchip; Manufacturer_Part_Number: MCP4725A1T-E/CH; Datasheet Link: http://ww1.microchip.com/downloads/en/DeviceDoc/22039d.pdf; Height: 1.45mm; Mouser Part Number: 579-MCP4725A1T-E/CH; Mouser Price/Stock: https://www.mouser.co.uk/ProductDetail/Microchip-Technology/MCP4725A1T-E-CH?qs=hH%252BOa0VZEiAEv3DkTzEZDg%3D%3D; Arrow Part Number: MCP4725A1T-E/CH; Arrow Price/Stock: https://www.arrow.com/en/products/mcp4725a1t-ech/microchip-technology?region=nac
footprint SOT23-6
pins: 1 VOUT, 2 VSS, 3 VDD, 4 SDA, 5 SCL, 6 A0

## MF-FSMLxxx/8-2
designator F?, comment MF-FSMLxxx
PTC Resettable Fuse
footprint FUSC1608X70N
pins: 1, 2
text: F

## MFR_Fiducial
designator FID?, comment Fiducial  (no BOM)
Manufacturing Fiducial
footprint Fiducial

## MH
designator MH?, comment Mounting Hole  (no BOM)
footprint MH_M3 (Mounting Hole M4 Size (4.1mm ID))
footprint MH_M4 (Mounting Hole M3 Size (3.2mm ID))
footprint MH_M2 (Mounting Hole M2 Size (2mm ID))
pins: MH

## Misc_Mousebite
designator *
footprint Mouse_Bite_2.5mm
footprint Mouse_Bite_3.25mm

## MLT-8530
designator LS?
Passive Buzzer 2.5V-4.5V; Manufacturer_Name: Jiangsu Huaneng Elec; Datasheet Link: https://datasheet.lcsc.com/szlcsc/1811182003_Jiangsu-Huaneng-Elec-MLT-8530_C94599.pdf; Height: 3mm; Manufacturer_Part_Number: MLT-8530
footprint MLT8530
pins: 1 DUMMY_PAD_1, 2 +LEAD, 3 -LEAD, 4 DUMMY_PAD_2

## MT2492
designator U?
footprint SOT23-6
pins: 1 BS, 2 GND, 3 FB, 4 EN, 5 VIN, 6 SW

## NCP167BFCT330T2G
designator IC?
Integrated Circuit; Manufacturer_Name: onsemi; Manufacturer_Part_Number: NCP167BFCT330T2G; Datasheet Link: https://www.onsemi.com/pub/Collateral/NCP167-D.PDF; Height: 0.33mm; Mouser Part Number: 863-NCP167BFCT330T2G; Mouser Price/Stock: https://www.mouser.co.uk/ProductDetail/onsemi/NCP167BFCT330T2G?qs=l7cgNqFNU1gQH4CpPGF7lw%3D%3D; Arrow Part Number: NCP167BFCT330T2G; Arrow Price/Stock: https://www.arrow.com/en/products/ncp167bfct330t2g/on-semiconductor?region=nac
footprint BGA4C35P2X2_64X64X33
pins: A1 IN, A2 OUT, B1 EN, B2 GND

## NETTIE
designator NT?  (value not drawn)  (net tie, no BOM)
Net Tie
footprint Net tie
pins: A, K

## OA_LM358D
designator U?, comment LM358D
Dual General Purpose Operational Amplifier; Manufacturer_Name: Texas Instruments; Datasheet Link: http://www.ti.com/lit/ds/symlink/lm358.pdf; Height: 1.75mm; Manufacturer_Part_Number: LM358D; Mouser Part Number: 595-LM358D; Mouser Price/Stock: https://www.mouser.co.uk/ProductDetail/Texas-Instruments/LM358D?qs=X1HXWTtiZ0RJBM%2FvBfVo8g%3D%3D; Arrow Part Number: LM358D; Arrow Price/Stock: https://www.arrow.com/en/products/lm358d/texas-instruments?region=nac
footprint SOIC-8N
pins: 1 OUT1, 2 IN1-, 3 IN1+, 4 V-, 5 IN2+, 6 IN2-, 7 OUT2, 8 V+

## OA_NCX2200xx
designator U?, comment NCX2200xx
Low voltage comparator
footprint SOT353 (TSSOP5 (Nexperia))
pins: 1 OUT, 2 VEE, 3 IN+, 4 IN-, 5 VCC

## OA_OP07x
designator U?, comment OP07x
Precision Single Operational Amplifier; Manufacturer_Name: Texas Instruments; Manufacturer_Part_Number: OP07CDR; Datasheet Link: http://www.ti.com/lit/gpn/op07c; Height: 1.75mm; Mouser Part Number: 595-OP07CDR; Mouser Price/Stock: https://www.mouser.co.uk/ProductDetail/Texas-Instruments/OP07CDR?qs=fvkeCqCHl3CjHoDuCqy8OQ%3D%3D; Arrow Part Number: OP07CDR; Arrow Price/Stock: https://www.arrow.com/en/products/op07cdr/texas-instruments
footprint SOIC-8N
pins: 2 -, 3 +, 4 VSS, 6 OUT, 7 VCC

## Q_8205A
designator Q?, comment 8205A
20V 5A 27mOhm B2B N Channel MOSFET
footprint SOT23-6
pins: 1 S1, 2 7, 3 S2, 4 G, 6 G

## Q_AO4485
designator Q?, comment AO4485
40V 15mOhm @ -10V P channel MOSFET
footprint SOIC-8N; pin to pad 1>4 2>5+6+7+8 3>1+2+3
pins: 1 G, 2 D, 3 S

## Q_AO4803A
designator Q?, comment AO4803A
30V 5A 46mΩ@10V,5A 2W 2.5V@250uA 2 P-Channel SOIC-8 MOSFETs ROHS
footprint SOIC-8N; pin to pad D1>5+6 D2>7+8 G1>4 G2>2 S1>3 S2>1
part A pins: D1, G1, S1
part B pins: D2, G2, S2

## Q_AON6884
designator Q?, comment AON6884
40V 9A 1.6W 11.3mΩ@10V,10A 2.7V@250uA 2 N-Channel DFN-8(5.2x5.5) MOSFETs ROHS
footprint AON6884_DFN5*6; pin to pad D1>7+8 D2>5+6 G1>2 G2>4 S1>1 S2>3
part A pins: D1, G1, S1
part B pins: D2, G2, S2

## Q_AON7407
designator Q?, comment AON7407
-20V 9.5mOhm @ -4.5V P channel MOSFET
footprint DFN3x3A_8L_EP1_P; pin to pad 1>4 2>EP 3>1+2+3
pins: 1 G, 2 D, 3 S

## Q_AONR21321
designator Q?, comment AONR21321
-30V 16.5mOhm @ -10V P channel MOSFET
footprint DFN3x3A_8L_EP1_P; pin to pad 1>4 2>EP 3>1+2+3
pins: 1 G, 2 D, 3 S

## Q_BC847
designator Q?, comment BC847
NPN Transistor 45V 100mA 250mW 200hFE
footprint SOT23-3
pins: 1 B, 2 E, 3 C

## Q_BSS138LT1
designator Q?, comment BSS138LT1
50V 200mA N channel MOSFET
footprint SOT23-3
pins: 1 G, 2 S, 3 D

## Q_CJ2305
designator Q?, comment CJ2305
-12V 45mOhm P Channel MOSFET
footprint SOT23-3
pins: 1 G, 2 D, 3 S

## Q_DMN2024U
designator Q?, comment DMN2024U
N channel MOSFET
footprint SOT23-3; pin to pad 2>3 3>2
pins: 1 G, 2 D, 3 S

## Q_IPB039N10N3
designator Q?, comment IPB039N10N3
D2PAK Power MOSFET
footprint TO-263-7 (D2PAK); pin to pad 2>8 3>2+3+5+6+7
pins: 1 G, 2 D, 3 S

## Q_IRFP250MPBF
designator Q?, comment IRFP250MPBF
N channel MOSFET
footprint TO-247-IncreasedHeight
footprint TO-247-StandardHeight
pins: 1 G, 2 D, 3 S

## Q_NFET
designator Q?, comment tbd
Generic N channel MOSFET
footprint TO-220-3
footprint TO-247-IncreasedHeight
footprint TO-247-StandardHeight
footprint TO-247-REARMOUNT
footprint SOT523-3; pin to pad 2>3 3>2
pins: 1 G, 2 D, 3 S

## Q_NFET_LFPAK56
designator Q?, comment tbd
Nexperia LFPAK56 MOSFET (N-Channel)
footprint LFPAK56_UNIVERSAL; pin to pad 1>4 2>EP 3>1+2+3
pins: 1 G, 2 D, 3 S

## Q_NPN
designator Q?, comment tbd
Generic NPN Transistor
footprint Model Name (Footprint not found)
pins: 1 B, 2 E, 3 C

## Q_PFET
designator Q?, comment tbd
Generic P channel MOSFET
footprint TO-220-3
footprint TO-247-IncreasedHeight
footprint TO-247-StandardHeight
footprint TO-247-REARMOUNT
footprint SOT523-3; pin to pad 2>3 3>2
footprint TO-252-2 (DPAK)
pins: 1 G, 2 D, 3 S

## Q_PSMN4R2-40VSH
designator Q?, comment PSMN4R2-40VSH
Dual N Channel MOSFET (Half Bridge Connected) / 40V 4.2mOhm Max
footprint LFPAK56D (SOT1205); pin to pad D>5&6+3 DS>7&8 G1>4 G2>2 S>1
pins: D, DS G, G1   , G2 G, S

## QRE1113GR
designator Q?
footprint QRE1113GR (SMD Photo-Reflective Sensor)
pins: 1 A, 2 K, 3 C, 4 E

## REF35xx (BGA)
designator U?, comment REF35xx
Precision Voltage Reference
footprint DSBGA (0.4mm Pitch)
pins: A1 VREF (power), A2 VIN (power), B1 GND (power), B2 EN (power)
text: REF35xx / Vreference

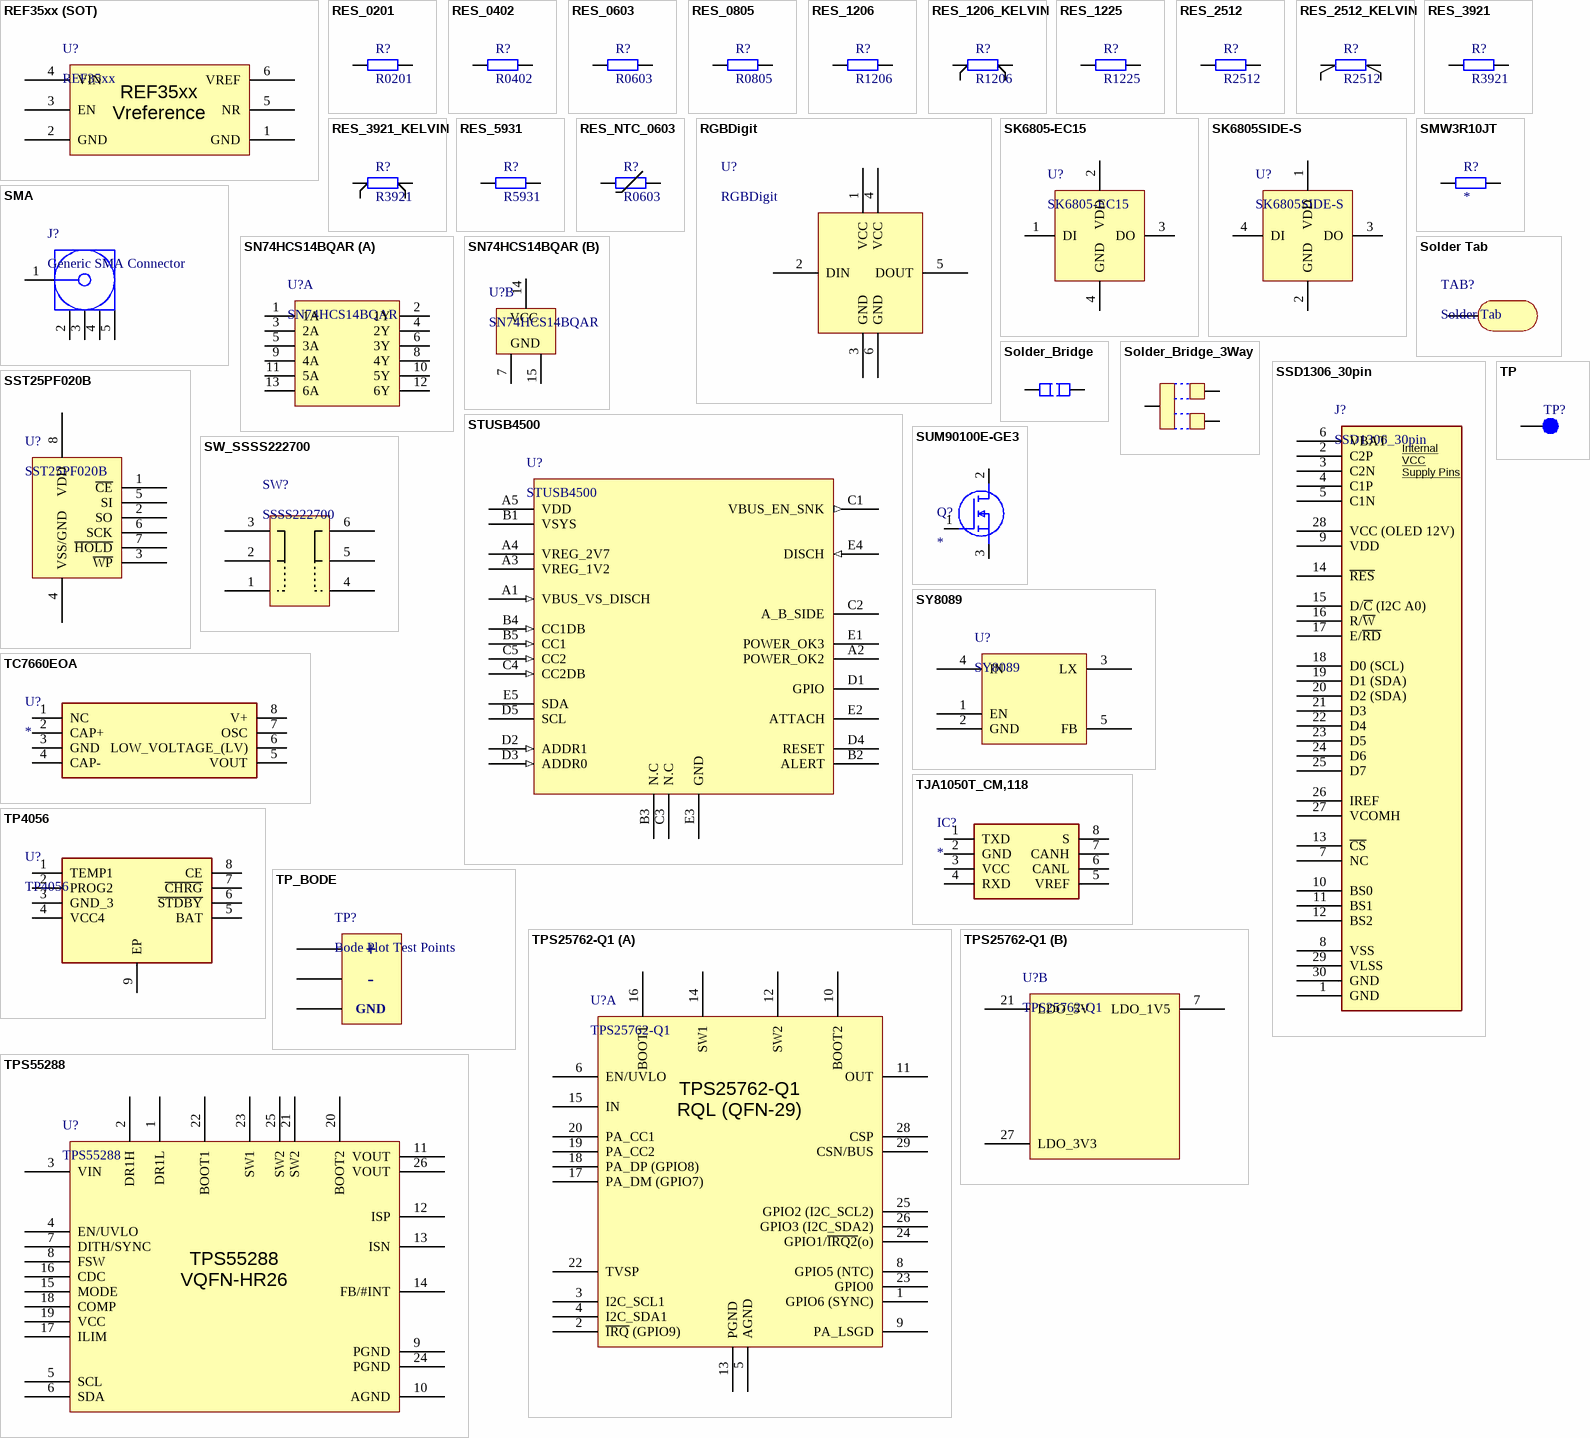
[diagram p4: symbols REF35xx (SOT) to TPS55288]

## REF35xx (SOT)
designator U?, comment REF35xx
Precision Voltage Reference
footprint SOT23-6
pins: 1 GND (power), 2 GND (power), 3 EN (power), 4 VIN (power), 5 NR (power), 6 VREF (power)
text: REF35xx / Vreference

## RES_0201
designator R?, comment R0201
Resistor SMD 0201
footprint RES_0201
pins: 1, 2

## RES_0402
designator R?, comment R0402
Resistor SMD 0402
footprint RES_0402
pins: 1, 2

## RES_0603
designator R?, comment R0603
Resistor SMD 0603
footprint RES_0603
pins: 1, 2

## RES_0805
designator R?, comment R0805
Resistor SMD 0805
footprint RES_0805
pins: 1, 2

## RES_1206
designator R?, comment R1206
Resistor SMD 1206
footprint RES_1206
pins: 1, 2

## RES_1206_KELVIN
designator R?, comment R1206
Resistor SMD 1206
footprint RES_1206_KELVIn
pins: 1, 2, 3 +, 4 -

## RES_1225
designator R?, comment R1225
Current Shunt Resistor 1225 Size; Manufacturer_Name: TT ELECTRONICS / WELWYN; Manufacturer_Part_Number: ULR3N-R001FT2; Datasheet Link: https://www.farnell.com/datasheets/3361026.pdf; Height: 0.8mm
footprint RESC3064X80N
pins: 1, 2

## RES_2512
designator R?, comment R2512
Resistor SMD 2512
footprint RES_2512
pins: 1, 2

## RES_2512_KELVIN
designator R?, comment R2512
Resistor SMD 2512
footprint RES_2512_KELVIN
pins: 1, 2, 3 +, 4 -

## RES_3921
designator R?, comment R3921
Current Shunt Resistor 3921 Size; Manufacturer_Name: Vishay; Manufacturer_Part_Number: WSLP1206R0100FEA; Datasheet Link: http://componentsearchengine.com/Datasheets/1/WSLP1206R0100FEA.pdf; Mouser Part Number: 71-WSLP1206R0100FEA; Mouser Price/Stock: https://www.mouser.co.uk/ProductDetail/Vishay-Dale/WSLP1206R0100FEA?qs=eFWhpKjIuGi0NI6XY8kkuw%3D%3D; Arrow Part Number: WSLP1206R0100FEA; Arrow Price/Stock: https://www.arrow.com/en/products/wslp1206r0100fea/vishay
footprint RES_3921
pins: 1, 2

## RES_3921_KELVIN
designator R?, comment R3921
Current Shunt Resistor 3921 Size; Manufacturer_Name: Vishay; Manufacturer_Part_Number: WSLP1206R0100FEA; Datasheet Link: http://componentsearchengine.com/Datasheets/1/WSLP1206R0100FEA.pdf; Mouser Part Number: 71-WSLP1206R0100FEA; Mouser Price/Stock: https://www.mouser.co.uk/ProductDetail/Vishay-Dale/WSLP1206R0100FEA?qs=eFWhpKjIuGi0NI6XY8kkuw%3D%3D; Arrow Part Number: WSLP1206R0100FEA; Arrow Price/Stock: https://www.arrow.com/en/products/wslp1206r0100fea/vishay
footprint RES_3921_KELVIN (Kelvin Measurement Layout)
pins: 1, 2, 3 +, 4 -

## RES_5931
designator R?, comment R5931
Current Shunt Resistor 5931 Size; Manufacturer_Name: Vishay; Manufacturer_Part_Number: WSLP1206R0100FEA; Datasheet Link: http://componentsearchengine.com/Datasheets/1/WSLP1206R0100FEA.pdf; Mouser Part Number: 71-WSLP1206R0100FEA; Mouser Price/Stock: https://www.mouser.co.uk/ProductDetail/Vishay-Dale/WSLP1206R0100FEA?qs=eFWhpKjIuGi0NI6XY8kkuw%3D%3D; Arrow Part Number: WSLP1206R0100FEA; Arrow Price/Stock: https://www.arrow.com/en/products/wslp1206r0100fea/vishay
footprint RES_5931
pins: 1, 2

## RES_NTC_0603
designator R?, comment R0603
Resistor SMD 0603
footprint RES_0603
pins: 1, 2

## RGBDigit
designator U?
7-Segment with WS2812B / (VCC = 5V Max I = 300mA)
footprint RGBDigit (7 segment digit with WS2812B RGB LEDs)
pins: 1 VCC, 2 DIN, 3 GND, 4 VCC, 5 DOUT, 6 GND

## SK6805-EC15
designator U?
Neopixel Compatible RGB LED
footprint SK6805-EC15
pins: 1 DI, 2 VDD, 3 DO, 4 GND

## SK6805SIDE-S
designator U?
Neopixel Compatible RGB LED
footprint SK6805SIDE-S
pins: 1 VDD, 2 GND, 3 DO, 4 DI

## SMA
designator J?, comment Generic SMA Connector
footprint SMA6251A1-3GT50G-50 (SMA PCB THT Jack Straight)
pins: 1 Signal "Signal Pin", 2 GND, 3 GND, 4 GND, 5 GND

## SMW3R10JT
designator R?
Resistor; Manufacturer_Name: TE Connectivity; Manufacturer_Part_Number: SMW3R10JT; Datasheet Link: https://datasheet.datasheetarchive.com/originals/distributors/DKDS42/DSANUWW0051571.pdf; Height: 5.3mm; Mouser Part Number: 279-SMW3R10JT; Mouser Price/Stock: https://www.mouser.com/Search/Refine.aspx?Keyword=279-SMW3R10JT; Arrow Part Number: SMW3R10JT; Arrow Price/Stock: https://www.arrow.com/en/products/smw3r10jt/te-connectivity
footprint RESM12055X530N
pins: 1, 2

## SN74HCS14BQAR
designator U?
Hex Schmitt Trigger Inverter
footprint SN74HCS14_WQFN14
part A pins: 1 1A (power), 2 1Y (power), 3 2A (power), 4 2Y (power), 5 3A (power), 6 3Y (power), 8 4Y (power), 9 4A (power), 10 5Y (power), 11 5A (power), 12 6Y (power), 13 6A (power)
part B pins: 7 GND (power), 14 VCC (power), 15 TH/GND (power)

## Solder Tab
designator TAB?
footprint TAB_1.5x2mm
footprint TAB_2x3mm
footprint TAB_3x5mm
pins: TAB

## Solder_Bridge
designator R?, comment Solder Bridge  (value not drawn)  (net tie, no BOM)
footprint BRIDGE (Solder Bridge)
pins: 1, 2

## Solder_Bridge_3Way
designator R?, comment Solder Bridge  (value not drawn)  (net tie, no BOM)
footprint BRIDGE_3WAY (Solder Bridge)
footprint BRIDGE_3WAY_ALT (Solder Bridge)
pins: 1, 2, 3

## SSD1306_30pin
designator J?
Generic SSD1306 Solder pads for 0.96" OLED
footprint SSD1306_30pin_footprint
pins: 1 GND, 2 C2P, 3 C2N, 4 C1P, 5 C1N, 6 VBAT, 7 NC, 8 VSS, 9 VDD, 10 BS0, 11 BS1, 12 BS2, 13 ~{CS}, 14 ~{RES}, 15 D/~{C} (I2C A0), 16 R/~{W}, 17 E/~{RD}, 18 D0 (SCL), 19 D1 (SDA), 20 D2 (SDA), 21 D3, 22 D4, 23 D5, 24 D6, 25 D7, 26 IREF, 27 VCOMH, 28 VCC (OLED 12V), 29 VLSS, 30 GND
text: Internal VCC Supply Pins

## SST25PF020B
designator U?
2 Mbit Quad SPI NOR Flash
footprint SOIC-8N
pins: 1 ~{CE}, 2 SO, 3 ~{WP}, 4 VSS/GND, 5 SI, 6 SCK, 7 ~{HOLD}, 8 VDD

## STUSB4500
designator U?
USB PD Sink IC (Rev 3.0 Compatible)
footprint WLCSP-25 (BGA 25 Pin (0.4mm Pitch))
pins: A1 VBUS_VS_DISCH (in), A2 POWER_OK2 (oc), A3 VREG_1V2, A4 VREG_2V7, A5 VDD (power), B1 VSYS (power), B2 ALERT, B3 N.C, B4 CC1DB (in), B5 CC1 (in), C1 VBUS_EN_SNK (out), C2 A_B_SIDE, C3 N.C, C4 CC2DB (in), C5 CC2 (in), D1 GPIO, D2 ADDR1 (in), D3 ADDR0 (in), D4 RESET, D5 SCL (oc), E1 POWER_OK3 (oc), E2 ATTACH, E3 GND, E4 DISCH (in), E5 SDA (oc)

## SUM90100E-GE3
designator Q?
MOSFET (N-Channel); Manufacturer_Name: Vishay; Manufacturer_Part_Number: SUM90100E-GE3; Datasheet Link: https://www.vishay.com/docs/63039/sum90100e.pdf; Height: 5.08mm; Mouser Part Number: 78-SUM90100E-GE3; Mouser Price/Stock: https://www.mouser.co.uk/ProductDetail/Vishay-Siliconix/SUM90100E-GE3?qs=TuK3vfAjtkUs%252B2OfO0bqyg%3D%3D; Arrow Part Number: SUM90100E-GE3; Arrow Price/Stock: https://www.arrow.com/en/products/sum90100e-ge3/vishay?region=nac
footprint SUM90100EGE3
pins: 1 G, 2 D, 3 S

## SW_SSSS222700
designator SW?, comment SSSS222700
Slide Switch DPDT 300mA 6V
footprint SSSS222700 (Slide Switch DPDT 300mA 6V)
pins: 1, 2, 3, 4, 5, 6

## SY8089
designator U?
1.5 MHz 2A DC/DC Step Down Converter
footprint SOT23-5
pins: 1 EN, 2 GND, 3 LX, 4 IN, 5 FB

## TC7660EOA
designator U?
Charge Pump IC; Manufacturer_Name: Microchip; Manufacturer_Part_Number: TC7660EOA; Datasheet Link: https://ww1.microchip.com/downloads/en/devicedoc/21465c.pdf; Height: 1.75mm; Mouser Part Number: 579-TC7660EOA; Mouser Price/Stock: https://www.mouser.co.uk/ProductDetail/Microchip-Technology/TC7660EOA?qs=gZwDaUDMhIfP43HT5xqUZA%3D%3D; Arrow Part Number: TC7660EOA; Arrow Price/Stock: https://www.arrow.com/en/products/tc7660eoa/microchip-technology?region=europe
footprint SOIC-8N
pins: 1 NC, 2 CAP+, 3 GND, 4 CAP-, 5 VOUT, 6 LOW_VOLTAGE_(LV), 7 OSC, 8 V+

## TJA1050T_CM,118
designator IC?
Integrated Circuit; Manufacturer_Name: NXP; Manufacturer_Part_Number: TJA1050T/CM,118; Datasheet Link: http://www.nxp.com/docs/en/data-sheet/TJA1050.pdf; Height: 1.75mm; Mouser Part Number: 771-TJA1050T/CM118; Mouser Price/Stock: https://www.mouser.co.uk/ProductDetail/NXP-Semiconductors/TJA1050T-CM118?qs=5XOdhvmYM0NFFspw0VP5sA%3D%3D; Arrow Part Number: TJA1050T/CM,118; Arrow Price/Stock: https://www.arrow.com/en/products/tja1050tcm118/nxp-semiconductors?region=nac
footprint SOIC-8N
pins: 1 TXD, 2 GND, 3 VCC, 4 RXD, 5 VREF, 6 CANL, 7 CANH, 8 S

## TP
designator TP?  (value not drawn)  (no BOM)
footprint TP_50mil
pins: 1

## TP4056
designator U?
1 Cell Lithium-Ion/Polymer Charging IC; Manufacturer_Name: NanJing Top Power; Datasheet Link: https://dlnmh9ip6v2uc.cloudfront.net/datasheets/Prototyping/TP4056.pdf; Height: 1.75mm; Manufacturer_Part_Number: TP4056
footprint SOIC127P600X175-9N
pins: 1 TEMP1, 2 PROG2, 3 GND_3, 4 VCC4, 5 BAT, 6 ~{STDBY}, 7 ~{CHRG}, 8 CE, 9 EP

## TP_BODE
designator TP?, comment Bode Plot Test Points  (no BOM)
For Prodrive Bode100 Adapter
footprint Bode_TP
pins: +, -, GND

## TPS25762-Q1
designator U?
USB PD Buck-Boost Converter
footprint TPS25762
part A pins: 1 GPIO6 (SYNC), 2 ~{IRQ} (GPIO9), 3 I2C_SCL1, 4 I2C_SDA1, 5 AGND, 6 EN/UVLO, 8 GPIO5 (NTC), 9 PA_LSGD, 10 BOOT2, 11 OUT, 12 SW2, 13 PGND, 14 SW1, 15 IN, 16 BOOT1, 17 PA_DM (GPIO7), 18 PA_DP (GPIO8), 19 PA_CC2, 20 PA_CC1, 22 TVSP, 23 GPIO0, 24 GPIO1/~{IRQ2}(o), 25 GPIO2 (I2C_SCL2), 26 GPIO3 (I2C_SDA2), 28 CSP, 29 CSN/BUS
part B pins: 7 LDO_1V5, 21 LDO_5V, 27 LDO_3V3
part A text: TPS25762-Q1 / RQL (QFN-29)